# Altium schematic symbol library diy-modules.SCHLIB: 111 symbols (part 1 of 2)
Pins are listed as number, name and electrical type; pins without a type are passive.

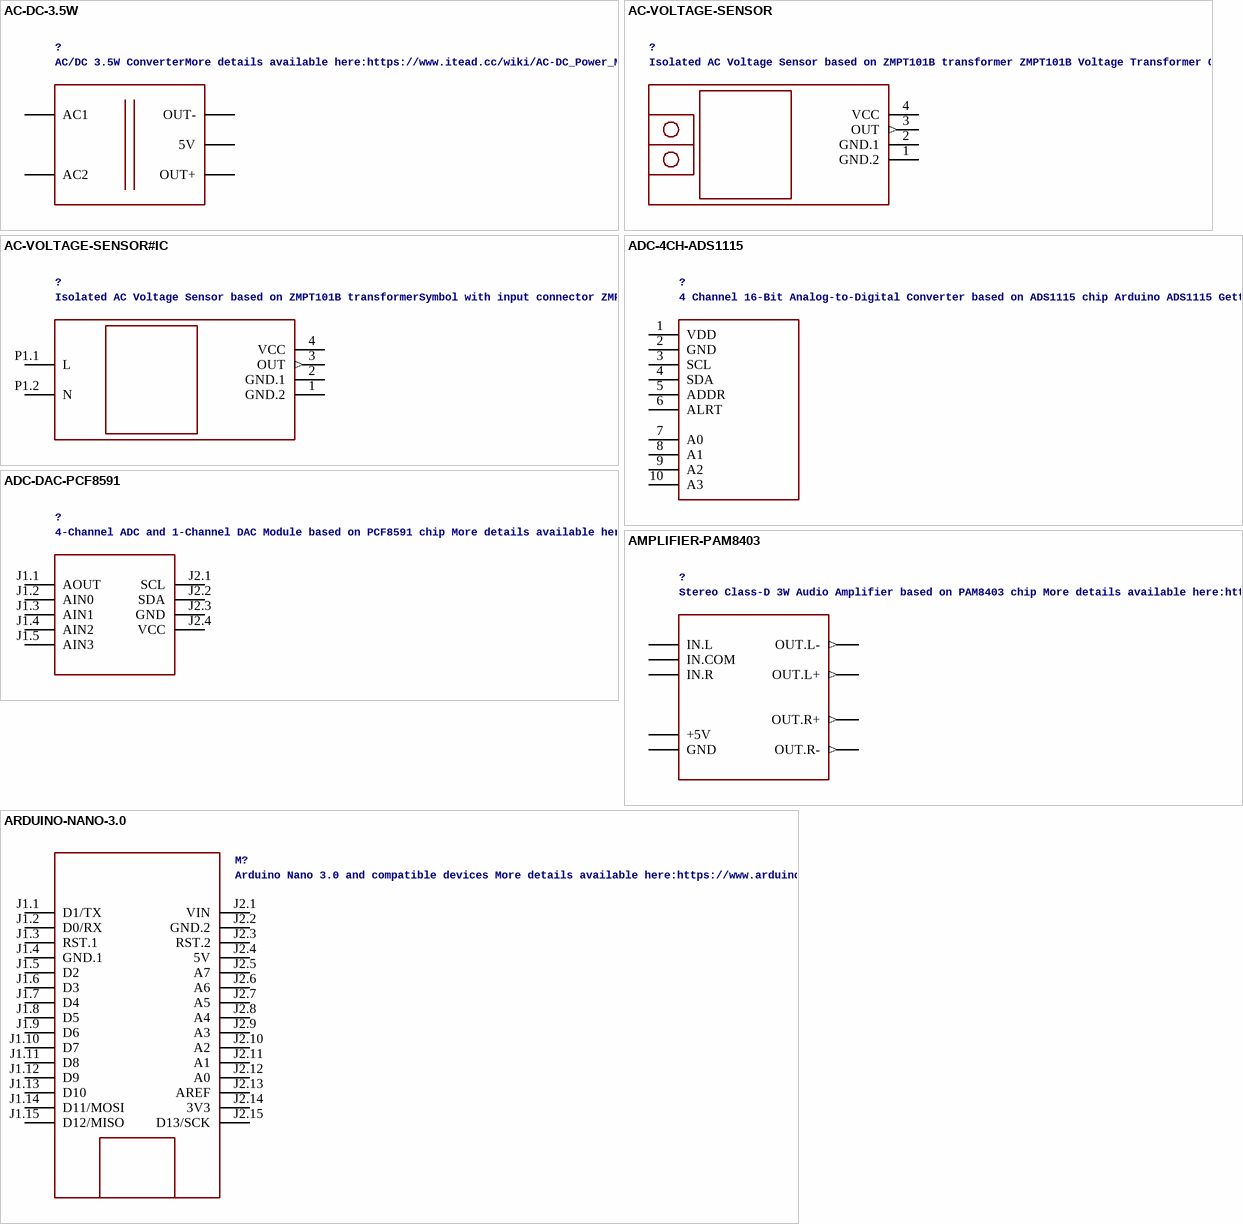
[diagram p0: symbols AC-DC-3.5W to ARDUINO-NANO-3.0]

## AC-DC-3.5W
designator ?, comment AC/DC 3.5W ConverterMore details available here:https://www.itead.cc/wiki/AC-DC_Power_Module_5V_700mAClick here to find device on ebay.com
GateName_1: G$1; SymbolName_1: AC-DC-3.5W; LibraryName: diy-modules; DeviceSetName: AC-DC-3.5W; Package: AC-DC-3.5W
footprint AC-DC-3.5W
pins: J1.1 AC1, J1.2 AC2, J2.1 OUT-, J2.2 5V, J2.3 OUT+

## AC-VOLTAGE-SENSOR
designator ?, comment Isolated AC Voltage Sensor based on ZMPT101B transformer ZMPT101B Voltage Transformer Operating Guide is available here:http://www.zeming-e.com/file/0_2013_10_18_093344.pdfClick here to find device on ebay.com
GateName_1: G$1; SymbolName_1: AC-VOLTAGE-SENSOR; LibraryName: diy-modules; DeviceSetName: AC-VOLTAGE-SENSOR; Package: AC-VOLTAGE-SENSOR
footprint AC-VOLTAGE-SENSOR
pins: 1 GND.2 (power), 2 GND.1 (power), 3 OUT (out), 4 VCC (power)

## AC-VOLTAGE-SENSOR#IC
designator ?, comment Isolated AC Voltage Sensor based on ZMPT101B transformerSymbol with input connector ZMPT101B Voltage Transformer Operating Guide is available here:http://www.zeming-e.com/file/0_2013_10_18_093344.pdfClick here to find device on ebay.com
GateName_1: G$1; SymbolName_1: AC-VOLTAGE-SENSOR#IC; LibraryName: diy-modules; DeviceSetName: AC-VOLTAGE-SENSOR#IC; Package: AC-VOLTAGE-SENSOR#IC
footprint AC-VOLTAGE-SENSOR#IC
pins: 1 GND.2 (power), 2 GND.1 (power), 3 OUT (out), 4 VCC (power), P1.1 L, P1.2 N

## ADC-4CH-ADS1115
designator ?, comment 4 Channel 16-Bit Analog-to-Digital Converter based on ADS1115 chip Arduino ADS1115 Getting Started Tutorial is available here:http://henrysbench.capnfatz.com/henrys-bench/arduino-voltage-measurements/arduino-ads1115-module-getting-started-tutorial/ADS1115 datasheet is available here:http://www.ti.com/lit/ds/symlink/ads1115.pdfClick here to find device on ebay.com
GateName_1: G$1; SymbolName_1: ADC-4CH-ADS1115; LibraryName: diy-modules; DeviceSetName: ADC-4CH-ADS1115; Package: ADC-4CH-ADS1115
footprint ADC-4CH-ADS1115
pins: 1 VDD (power), 2 GND (power), 3 SCL, 4 SDA, 5 ADDR, 6 ALRT, 7 A0, 8 A1, 9 A2, 10 A3

## ADC-DAC-PCF8591
designator ?, comment 4-Channel ADC and 1-Channel DAC Module based on PCF8591 chip More details available here:https://brainfyre.wordpress.com/2012/10/25/pcf8591-yl-40-ad-da-module-review/Click here to find device on ebay.com
GateName_1: G$1; SymbolName_1: ADC-DAC-PCF8591; LibraryName: diy-modules; DeviceSetName: ADC-DAC-PCF8591; Package: ADC-DAC-PCF8591
footprint ADC-DAC-PCF8591
pins: J1.1 AOUT, J1.2 AIN0, J1.3 AIN1, J1.4 AIN2, J1.5 AIN3, J2.1 SCL, J2.2 SDA, J2.3 GND (power), J2.4 VCC (power)

## AMPLIFIER-PAM8403
designator ?, comment Stereo Class-D 3W Audio Amplifier based on PAM8403 chip More details available here:http://artofcircuits.com/product/pam8403-5v-two-channel-stereo-mini-class-d-3w3w-audio-amplifierClick here to find device on ebay.com
GateName_1: G$1; SymbolName_1: AMPLIFIER-PAM8403; LibraryName: diy-modules; DeviceSetName: AMPLIFIER-PAM8403; Package: AMPLIFIER-PAM8403
footprint AMPLIFIER-PAM8403
pins: +5V (power), GND (power), IN.COM, IN.L, IN.R, OUT.L+ (out), OUT.L- (out), OUT.R+ (out), OUT.R- (out)

## ARDUINO-NANO-3.0
designator M?, comment Arduino Nano 3.0 and compatible devices More details available here:https://www.arduino.cc/en/Main/ArduinoBoardNanoClick here to find device on ebay.com
GateName_1: G$1; SymbolName_1: ARDUINO-NANO-3.0; LibraryName: diy-modules; DeviceSetName: ARDUINO-NANO-3.0; Package: ARDUINO-NANO-3.0
footprint ARDUINO-NANO-3.0
pins: J1.1 D1/TX, J1.2 D0/RX, J1.3 RST.1, J1.4 GND.1 (power), J1.5 D2, J1.6 D3, J1.7 D4, J1.8 D5, J1.9 D6, J1.10 D7, J1.11 D8, J1.12 D9, J1.13 D10, J1.14 D11/MOSI, J1.15 D12/MISO, J2.1 VIN (power), J2.2 GND.2 (power), J2.3 RST.2, J2.4 5V (power), J2.5 A7, J2.6 A6, J2.7 A5, J2.8 A4, J2.9 A3, J2.10 A2, J2.11 A1, J2.12 A0, J2.13 AREF, J2.14 3V3 (power), J2.15 D13/SCK

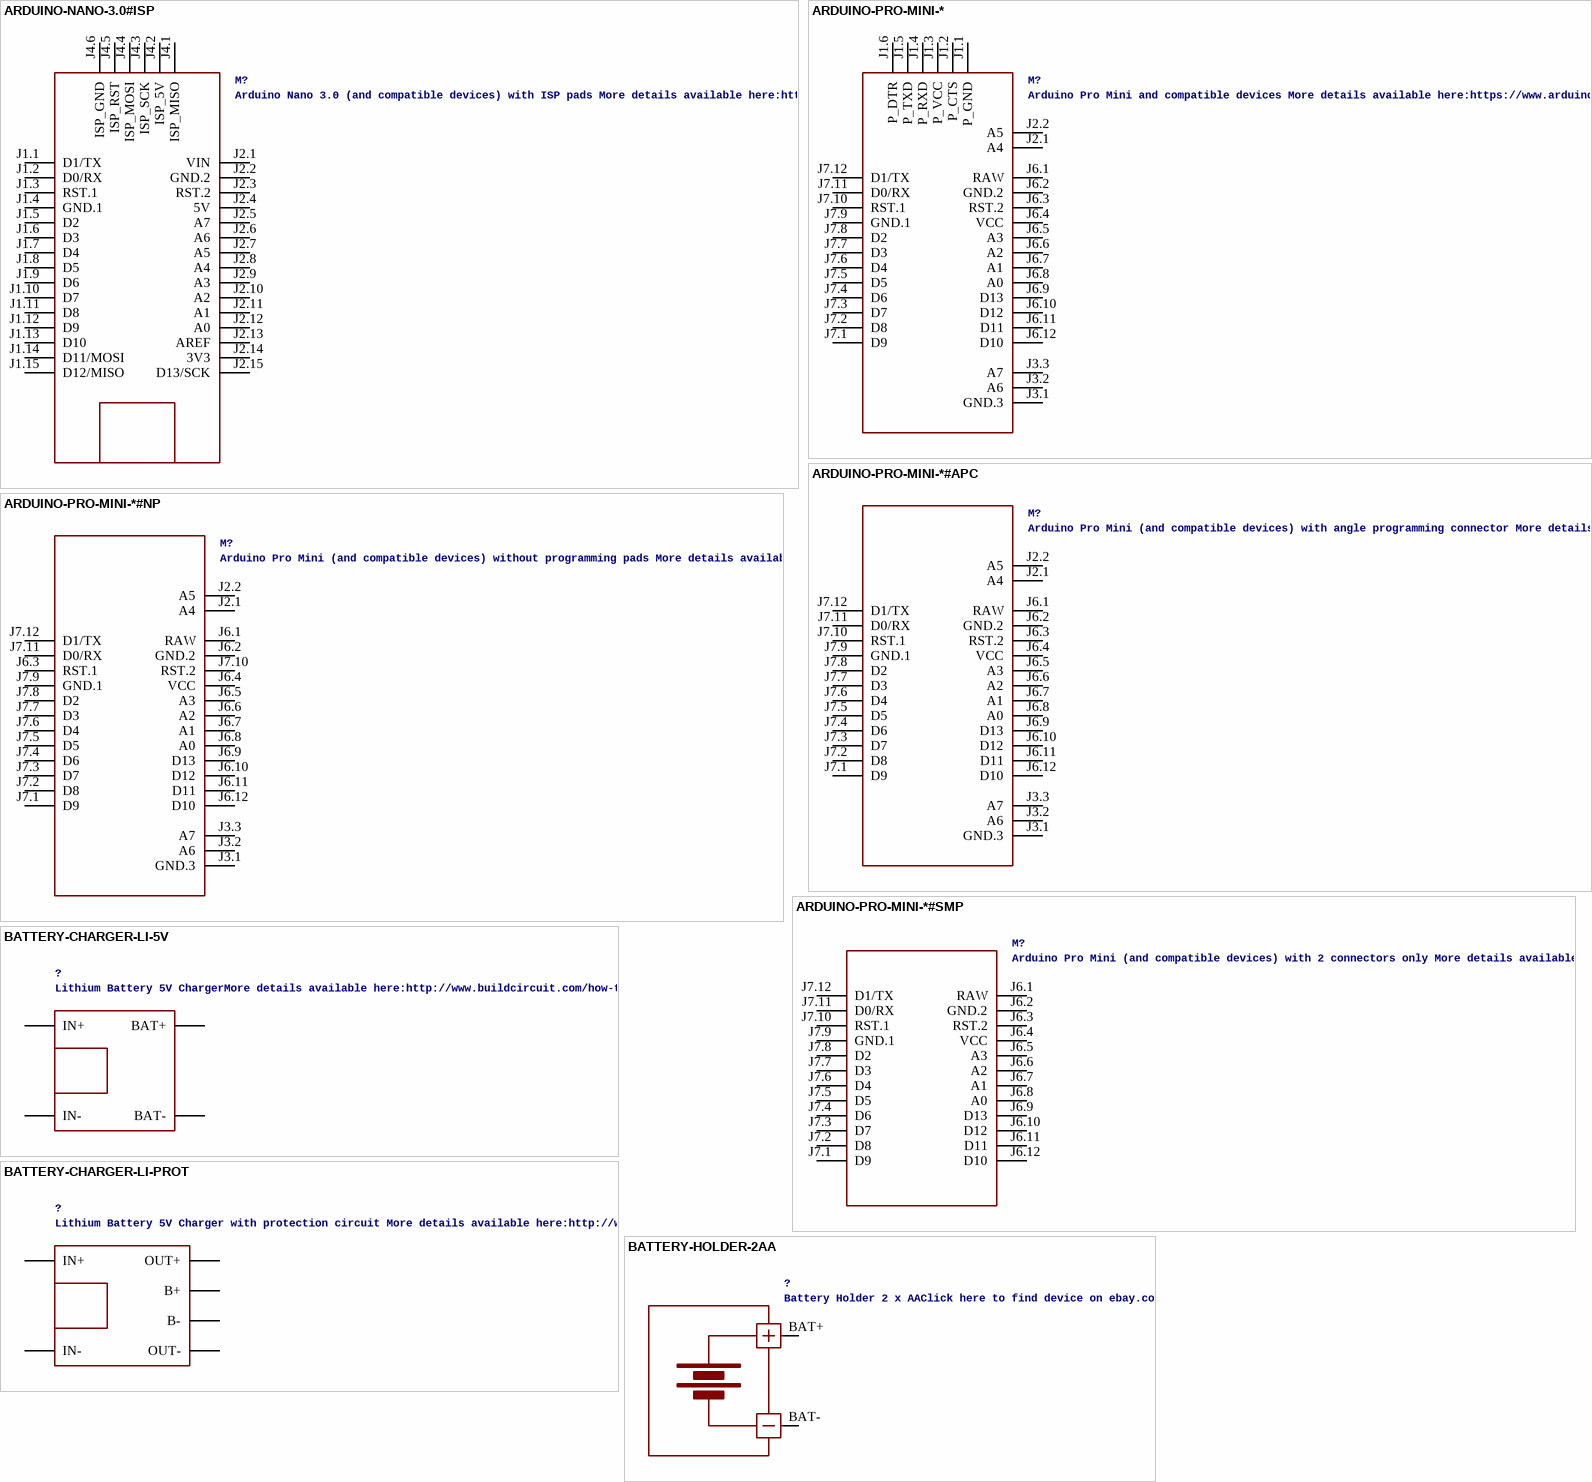
[diagram p1: symbols ARDUINO-NANO-3.0#ISP to BATTERY-HOLDER-2AA]

## ARDUINO-NANO-3.0#ISP
designator M?, comment Arduino Nano 3.0 (and compatible devices) with ISP pads More details available here:https://www.arduino.cc/en/Main/ArduinoBoardNanoClick here to find device on ebay.com
GateName_1: G$1; SymbolName_1: ARDUINO-NANO-3.0#ISP; LibraryName: diy-modules; DeviceSetName: ARDUINO-NANO-3.0#ISP; Package: ARDUINO-NANO-3.0#ISP
footprint ARDUINO-NANO-3.0#ISP
pins: J1.1 D1/TX, J1.2 D0/RX, J1.3 RST.1, J1.4 GND.1 (power), J1.5 D2, J1.6 D3, J1.7 D4, J1.8 D5, J1.9 D6, J1.10 D7, J1.11 D8, J1.12 D9, J1.13 D10, J1.14 D11/MOSI, J1.15 D12/MISO, J2.1 VIN (power), J2.2 GND.2 (power), J2.3 RST.2, J2.4 5V (power), J2.5 A7, J2.6 A6, J2.7 A5, J2.8 A4, J2.9 A3, J2.10 A2, J2.11 A1, J2.12 A0, J2.13 AREF, J2.14 3V3 (power), J2.15 D13/SCK, J4.1 ISP_MISO, J4.2 ISP_5V, J4.3 ISP_SCK, J4.4 ISP_MOSI, J4.5 ISP_RST, J4.6 ISP_GND

## ARDUINO-PRO-MINI-*
designator M?, comment Arduino Pro Mini and compatible devices More details available here:https://www.arduino.cc/en/Main/ArduinoBoardProMiniClick here to find device on ebay.com
GateName_1: G$1; SymbolName_1: ARDUINO-PRO-MINI; DeviceSetName: ARDUINO-PRO-MINI-*; LibraryName: diy-modules; Package: ARDUINO-PRO-MINI
footprint ARDUINO-PRO-MINI
pins: J1.1 P_GND, J1.2 P_CTS, J1.3 P_VCC, J1.4 P_RXD, J1.5 P_TXD, J1.6 P_DTR, J2.1 A4, J2.2 A5, J3.1 GND.3, J3.2 A6, J3.3 A7, J6.1 RAW (power), J6.2 GND.2 (power), J6.3 RST.2, J6.4 VCC (power), J6.5 A3, J6.6 A2, J6.7 A1, J6.8 A0, J6.9 D13, J6.10 D12, J6.11 D11, J6.12 D10, J7.1 D9, J7.2 D8, J7.3 D7, J7.4 D6, J7.5 D5, J7.6 D4, J7.7 D3, J7.8 D2, J7.9 GND.1 (power), J7.10 RST.1, J7.11 D0/RX, J7.12 D1/TX

## ARDUINO-PRO-MINI-*#APC
designator M?, comment Arduino Pro Mini (and compatible devices) with angle programming connector More details available here:https://www.arduino.cc/en/Main/ArduinoBoardProMiniClick here to find device on ebay.com
GateName_1: G$1; SymbolName_1: ARDUINO-PRO-MINI#NP; DeviceSetName: ARDUINO-PRO-MINI-*#APC; LibraryName: diy-modules; Package: ARDUINO-PRO-MINI#APC
footprint ARDUINO-PRO-MINI#APC
pins: J2.1 A4, J2.2 A5, J3.1 GND.3, J3.2 A6, J3.3 A7, J6.1 RAW (power), J6.2 GND.2 (power), J6.3 RST.2, J6.4 VCC (power), J6.5 A3, J6.6 A2, J6.7 A1, J6.8 A0, J6.9 D13, J6.10 D12, J6.11 D11, J6.12 D10, J7.1 D9, J7.2 D8, J7.3 D7, J7.4 D6, J7.5 D5, J7.6 D4, J7.7 D3, J7.8 D2, J7.9 GND.1 (power), J7.10 RST.1, J7.11 D0/RX, J7.12 D1/TX

## ARDUINO-PRO-MINI-*#NP
designator M?, comment Arduino Pro Mini (and compatible devices) without programming pads More details available here:https://www.arduino.cc/en/Main/ArduinoBoardProMiniClick here to find device on ebay.com
GateName_1: G$1; SymbolName_1: ARDUINO-PRO-MINI#NP; DeviceSetName: ARDUINO-PRO-MINI-*#NP; LibraryName: diy-modules; Package: ARDUINO-PRO-MINI#NP
footprint ARDUINO-PRO-MINI#NP
pins: J2.1 A4, J2.2 A5, J3.1 GND.3, J3.2 A6, J3.3 A7, J6.1 RAW (power), J6.2 GND.2 (power), J6.3 RST.1, J6.4 VCC (power), J6.5 A3, J6.6 A2, J6.7 A1, J6.8 A0, J6.9 D13, J6.10 D12, J6.11 D11, J6.12 D10, J7.1 D9, J7.2 D8, J7.3 D7, J7.4 D6, J7.5 D5, J7.6 D4, J7.7 D3, J7.8 D2, J7.9 GND.1 (power), J7.10 RST.2, J7.11 D0/RX, J7.12 D1/TX

## ARDUINO-PRO-MINI-*#SMP
designator M?, comment Arduino Pro Mini (and compatible devices) with 2 connectors only More details available here:https://www.arduino.cc/en/Main/ArduinoBoardProMiniClick here to find device on ebay.com
GateName_1: G$1; SymbolName_1: ARDUINO-PRO-MINI#SMP; DeviceSetName: ARDUINO-PRO-MINI-*#SMP; LibraryName: diy-modules; Package: ARDUINO-PRO-MINI#SMP
footprint ARDUINO-PRO-MINI#SMP
pins: J6.1 RAW (power), J6.2 GND.2 (power), J6.3 RST.2, J6.4 VCC (power), J6.5 A3, J6.6 A2, J6.7 A1, J6.8 A0, J6.9 D13, J6.10 D12, J6.11 D11, J6.12 D10, J7.1 D9, J7.2 D8, J7.3 D7, J7.4 D6, J7.5 D5, J7.6 D4, J7.7 D3, J7.8 D2, J7.9 GND.1 (power), J7.10 RST.1, J7.11 D0/RX, J7.12 D1/TX

## BATTERY-CHARGER-LI-5V
designator ?, comment Lithium Battery 5V ChargerMore details available here:http://www.buildcircuit.com/how-to-use-micro-usb-5v-1a-lithium-battery-charging-board-charger-module/Click here to find device on ebay.com
GateName_1: G$1; SymbolName_1: BATTERY-CHARGER-LI-5V; LibraryName: diy-modules; DeviceSetName: BATTERY-CHARGER-LI-5V; Package: BATTERY-CHARGER-LI-5V
footprint BATTERY-CHARGER-LI-5V
pins: BAT+, BAT-, IN+, IN-

## BATTERY-CHARGER-LI-PROT
designator ?, comment Lithium Battery 5V Charger with protection circuit More details available here:http://www.instructables.com/id/DIY-Lithium-ion-Battery-Charger/step4/TP4056-based-lithium-ion-battery-charger-module/Click here to find device on ebay.com
GateName_1: G$1; SymbolName_1: BATTERY-CHARGER-LI-PROT; LibraryName: diy-modules; DeviceSetName: BATTERY-CHARGER-LI-PROT; Package: BATTERY-CHARGER-LI-PROT
footprint BATTERY-CHARGER-LI-PROT
pins: B+, B-, IN+, IN-, OUT+, OUT-

## BATTERY-HOLDER-2AA
designator ?, comment Battery Holder 2 x AAClick here to find device on ebay.com
GateName_1: G$1; SymbolName_1: BATTERY-HOLDER-2AA; LibraryName: diy-modules; DeviceSetName: BATTERY-HOLDER-2AA; Package: BATTERY-HOLDER-2AA
footprint BATTERY-HOLDER-2AA
pins: BAT+ (power), BAT- (power)

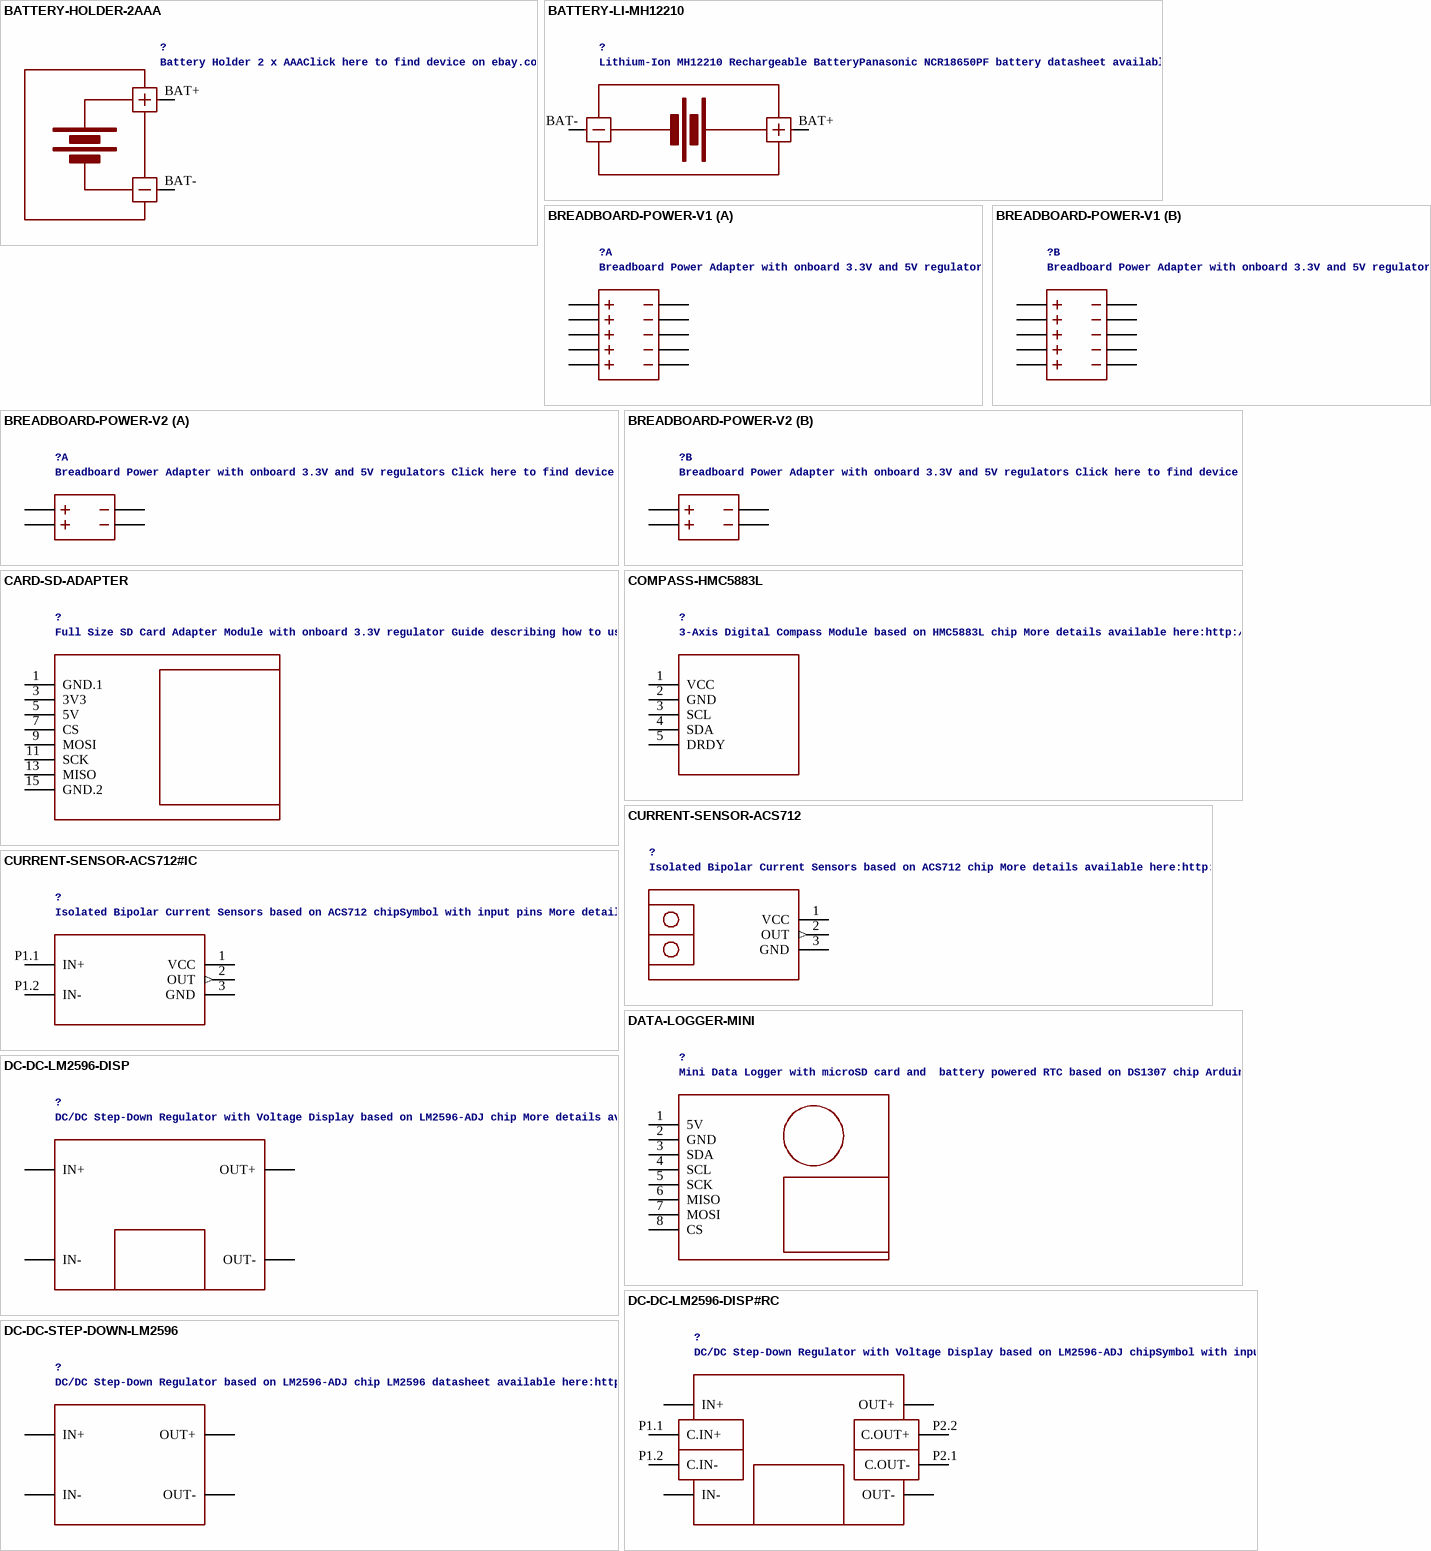
[diagram p2: symbols BATTERY-HOLDER-2AAA to DC-DC-STEP-DOWN-LM2596]

## BATTERY-HOLDER-2AAA
designator ?, comment Battery Holder 2 x AAAClick here to find device on ebay.com
GateName_1: G$1; SymbolName_1: BATTERY-HOLDER-2AAA; LibraryName: diy-modules; DeviceSetName: BATTERY-HOLDER-2AAA; Package: BATTERY-HOLDER-2AAA
footprint BATTERY-HOLDER-2AAA
pins: BAT+ (power), BAT- (power)

## BATTERY-LI-MH12210
designator ?, comment Lithium-Ion MH12210 Rechargeable BatteryPanasonic NCR18650PF battery datasheet available here:https://industrial.panasonic.com/cdbs/www-data/pdf2/ACI4000/ACI4000C12.pdfClick here to find device on ebay.com
GateName_1: G$1; SymbolName_1: BATTERY-LI-MH12210; LibraryName: diy-modules; DeviceSetName: BATTERY-LI-MH12210; Package: BATTERY-LI-MH12210
footprint BATTERY-LI-MH12210
pins: BAT+ (power), BAT- (power)

## BREADBOARD-POWER-V1
designator ?, comment Breadboard Power Adapter with onboard 3.3V and 5V regulators
GateName_1: G$1; SymbolName_1: BREADBOARD-POWER-V1; GateName_2: G$2; SymbolName_2: BREADBOARD-POWER-V1; LibraryName: diy-modules; DeviceSetName: BREADBOARD-POWER-V1; Package: BREADBOARD-POWER-V1
footprint BREADBOARD-POWER-V1
part A pins: A.M.1 M.1, A.M.2 M.2, A.M.3 M.3, A.M.4 M.4, A.M.5 M.5, A.P.1 P.1, A.P.2 P.2, A.P.3 P.3, A.P.4 P.4, A.P.5 P.5
part B pins: B.M.1 M.1, B.M.2 M.2, B.M.3 M.3, B.M.4 M.4, B.M.5 M.5, B.P.1 P.1, B.P.2 P.2, B.P.3 P.3, B.P.4 P.4, B.P.5 P.5

## BREADBOARD-POWER-V2
designator ?, comment Breadboard Power Adapter with onboard 3.3V and 5V regulators Click here to find device on ebay.com
GateName_1: G$1; SymbolName_1: BREADBOARD-POWER-V2; GateName_2: G$2; SymbolName_2: BREADBOARD-POWER-V2; LibraryName: diy-modules; DeviceSetName: BREADBOARD-POWER-V2; Package: BREADBOARD-POWER-V2
footprint BREADBOARD-POWER-V2
part A pins: A.M.1 M.1, A.M.2 M.2, A.P.1 P.1, A.P.2 P.2
part B pins: B.M.1 M.1, B.M.2 M.2, B.P.1 P.1, B.P.2 P.2

## CARD-SD-ADAPTER
designator ?, comment Full Size SD Card Adapter Module with onboard 3.3V regulator Guide describing how to use SD card with Arduino is available here:https://www.arduino.cc/en/Reference/SDCardNotesClick here to find device on ebay.com
GateName_1: G$1; SymbolName_1: CARD-SD-ADAPTER; LibraryName: diy-modules; DeviceSetName: CARD-SD-ADAPTER; Package: CARD-SD-ADAPTER
footprint CARD-SD-ADAPTER
pins: 1 GND.1 (power), 3 3V3 (power), 5 5V (power), 7 CS, 9 MOSI, 11 SCK, 13 MISO, 15 GND.2 (power)

## COMPASS-HMC5883L
designator ?, comment 3-Axis Digital Compass Module based on HMC5883L chip More details available here:http://www.electrodragon.com/w/HMCClick here to find device on ebay.com
GateName_1: G$1; SymbolName_1: COMPASS-HMC5883L; LibraryName: diy-modules; DeviceSetName: COMPASS-HMC5883L; Package: COMPASS-HMC5883L
footprint COMPASS-HMC5883L
pins: 1 VCC (power), 2 GND (power), 3 SCL, 4 SDA, 5 DRDY

## CURRENT-SENSOR-ACS712
designator ?, comment Isolated Bipolar Current Sensors based on ACS712 chip More details available here:http://embedded-lab.com/blog/a-brief-overview-of-allegro-acs712-current-sensor-part-1/Click here to find device on ebay.comNote: There are many available versions with different pinout. Please check before use
GateName_1: G$1; SymbolName_1: CURRENT-SENSOR-ACS712; LibraryName: diy-modules; DeviceSetName: CURRENT-SENSOR-ACS712; Package: CURRENT-SENSOR-ACS712
footprint CURRENT-SENSOR-ACS712
pins: 1 VCC (power), 2 OUT (out), 3 GND (power)

## CURRENT-SENSOR-ACS712#IC
designator ?, comment Isolated Bipolar Current Sensors based on ACS712 chipSymbol with input pins More details available here:http://embedded-lab.com/blog/a-brief-overview-of-allegro-acs712-current-sensor-part-1/Click here to find device on ebay.comNote: There are many available versions with different pinout. Please check before use
GateName_1: G$1; SymbolName_1: CURRENT-SENSOR-ACS712#IC; LibraryName: diy-modules; DeviceSetName: CURRENT-SENSOR-ACS712#IC; Package: CURRENT-SENSOR-ACS712#IC
footprint CURRENT-SENSOR-ACS712#IC
pins: 1 VCC (power), 2 OUT (out), 3 GND (power), P1.1 IN+, P1.2 IN-

## DATA-LOGGER-MINI
designator ?, comment Mini Data Logger with microSD card and  battery powered RTC based on DS1307 chip Arduino library for DS1307 and description are available here:https://www.pjrc.com/teensy/td_libs_DS1307RTC.htmlTutorial how to use SD card with Arduino:https://www.arduino.cc/en/reference/SDClick here to find device on ebay.com
GateName_1: G$1; SymbolName_1: DATA-LOGGER-MINI; LibraryName: diy-modules; DeviceSetName: DATA-LOGGER-MINI; Package: DATA-LOGGER-MINI
footprint DATA-LOGGER-MINI
pins: 1 5V (power), 2 GND (power), 3 SDA, 4 SCL, 5 SCK, 6 MISO, 7 MOSI, 8 CS (power)

## DC-DC-LM2596-DISP
designator ?, comment DC/DC Step-Down Regulator with Voltage Display based on LM2596-ADJ chip More details available here:http://www.instructables.com/id/The-Introduction-of-LM2596-Step-Down-Power-Module-/LM2596 datasheet available here:http://www.ti.com/lit/ds/symlink/lm2596.pdfClick here to find device on ebay.com
GateName_1: G$1; SymbolName_1: DC-DC-LM2596-DISP; LibraryName: diy-modules; DeviceSetName: DC-DC-LM2596-DISP; Package: DC-DC-LM2596-DISP
footprint DC-DC-LM2596-DISP
pins: IN+, IN-, OUT+, OUT-

## DC-DC-LM2596-DISP#RC
designator ?, comment DC/DC Step-Down Regulator with Voltage Display based on LM2596-ADJ chipSymbol with input and output connectors More details available here:http://www.instructables.com/id/The-Introduction-of-LM2596-Step-Down-Power-Module-/LM2596 datasheet available here:http://www.ti.com/lit/ds/symlink/lm2596.pdfClick here to find device on ebay.com
GateName_1: G$1; SymbolName_1: DC-DC-LM2596-DISP#RC; LibraryName: diy-modules; DeviceSetName: DC-DC-LM2596-DISP#RC; Package: DC-DC-LM2596-DISP#RC
footprint DC-DC-LM2596-DISP#RC
pins: IN+, IN-, OUT+, OUT-, P1.1 C.IN+, P1.2 C.IN-, P2.1 C.OUT-, P2.2 C.OUT+

## DC-DC-STEP-DOWN-LM2596
designator ?, comment DC/DC Step-Down Regulator based on LM2596-ADJ chip LM2596 datasheet available here:http://www.ti.com/lit/ds/symlink/lm2596.pdfClick here to find device on ebay.com
GateName_1: G$1; SymbolName_1: DC-DC-STEP-DOWN-LM2596; LibraryName: diy-modules; DeviceSetName: DC-DC-STEP-DOWN-LM2596; Package: DC-DC-STEP-DOWN-LM2596
footprint DC-DC-STEP-DOWN-LM2596
pins: IN+, IN-, OUT+, OUT-

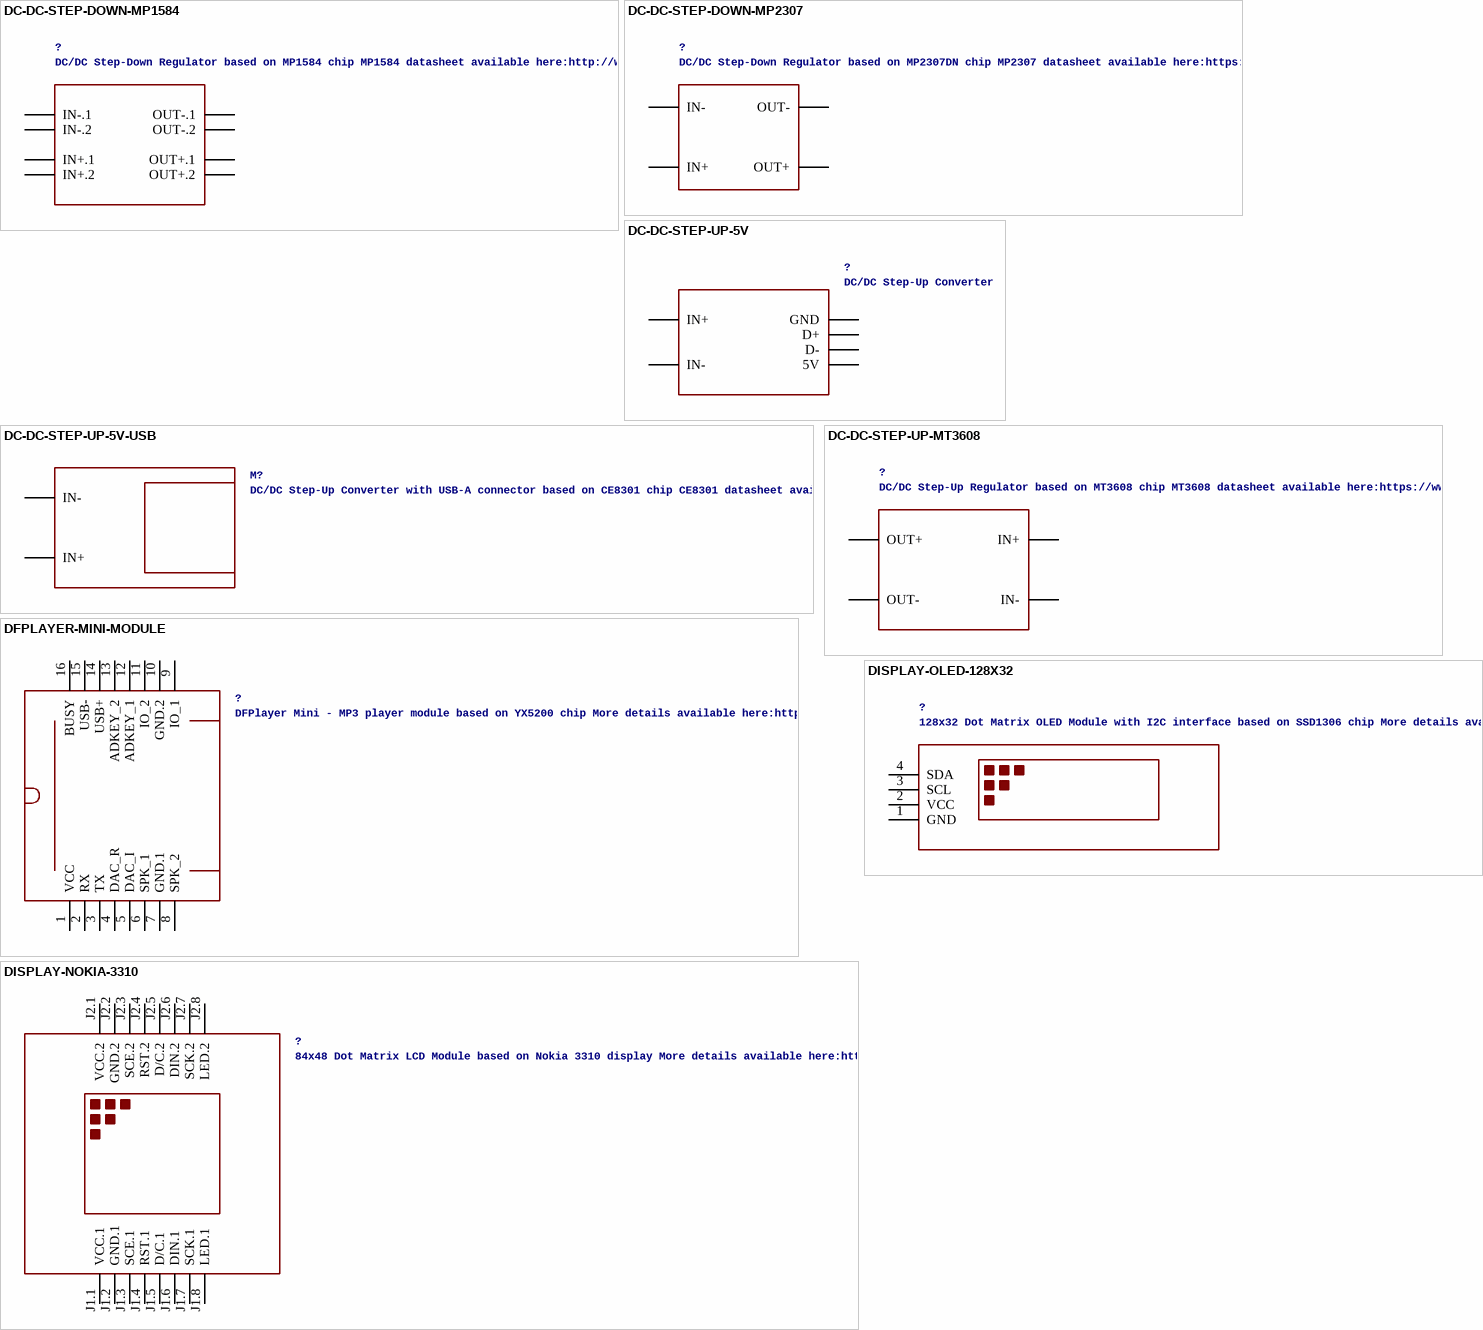
[diagram p3: symbols DC-DC-STEP-DOWN-MP1584 to DISPLAY-OLED-128X32]

## DC-DC-STEP-DOWN-MP1584
designator ?, comment DC/DC Step-Down Regulator based on MP1584 chip MP1584 datasheet available here:http://www.haoyuelectronics.com/Attachment/MP1584/MP1584.pdfClick here to find device on ebay.com
GateName_1: G$1; SymbolName_1: DC-DC-STEP-DOWN-MP1584; LibraryName: diy-modules; DeviceSetName: DC-DC-STEP-DOWN-MP1584; Package: DC-DC-STEP-DOWN-MP1584
footprint DC-DC-STEP-DOWN-MP1584
pins: IN+.1, IN+.2, IN-.1, IN-.2, OUT+.1, OUT+.2, OUT-.1, OUT-.2

## DC-DC-STEP-DOWN-MP2307
designator ?, comment DC/DC Step-Down Regulator based on MP2307DN chip MP2307 datasheet available here:https://cdn-shop.adafruit.com/datasheets/MP2307_r1.9.pdfClick here to find device on ebay.com
GateName_1: G$1; SymbolName_1: DC-DC-STEP-DOWN-MP2307; LibraryName: diy-modules; DeviceSetName: DC-DC-STEP-DOWN-MP2307; Package: DC-DC-STEP-DOWN-MP2307
footprint DC-DC-STEP-DOWN-MP2307
pins: IN+, IN-, OUT+, OUT-

## DC-DC-STEP-UP-5V
designator ?, comment DC/DC Step-Up Converter
GateName_1: G$1; SymbolName_1: DC-DC-STEP-UP-5V; LibraryName: diy-modules; DeviceSetName: DC-DC-STEP-UP-5V; Package: DC-DC-STEP-UP-5V
footprint DC-DC-STEP-UP-5V
pins: 5V, D+, D-, GND, IN+ (power), IN- (power)

## DC-DC-STEP-UP-5V-USB
designator M?, comment DC/DC Step-Up Converter with USB-A connector based on CE8301 chip CE8301 datasheet available here:https://www.mpja.com/download/ce830.pdfClick here to find device on ebay.com
GateName_1: G$1; SymbolName_1: DC-DC-STEP-UP-5V-USB; LibraryName: diy-modules; DeviceSetName: DC-DC-STEP-UP-5V-USB; Package: DC-DC-STEP-UP-5V-USB
footprint DC-DC-STEP-UP-5V-USB
pins: IN+ (power), IN- (power)

## DC-DC-STEP-UP-MT3608
designator ?, comment DC/DC Step-Up Regulator based on MT3608 chip MT3608 datasheet available here:https://www.olimex.com/Products/Breadboarding/BB-PWR-3608/resources/MT3608.pdfClick here to find device on ebay.com
GateName_1: G$1; SymbolName_1: DC-DC-STEP-UP-MT3608; LibraryName: diy-modules; DeviceSetName: DC-DC-STEP-UP-MT3608; Package: DC-DC-STEP-UP-MT3608
footprint DC-DC-STEP-UP-MT3608
pins: IN+, IN-, OUT+, OUT-

## DFPLAYER-MINI-MODULE
designator ?, comment DFPlayer Mini - MP3 player module based on YX5200 chip More details available here:https://www.dfrobot.com/wiki/index.php/DFPlayer_Mini_SKU:DFR0299Click here to find device on ebay.com
GateName_1: G$1; SymbolName_1: DFPLAYER-MINI-MODULE; LibraryName: diy-modules; DeviceSetName: DFPLAYER-MINI-MODULE; Package: DFPLAYER-MINI-MODULE
footprint DFPLAYER-MINI-MODULE
pins: 1 VCC (power), 2 RX, 3 TX, 4 DAC_R, 5 DAC_I, 6 SPK_1, 7 GND.1 (power), 8 SPK_2, 9 IO_1, 10 GND.2 (power), 11 IO_2, 12 ADKEY_1, 13 ADKEY_2, 14 USB+, 15 USB-, 16 BUSY

## DISPLAY-NOKIA-3310
designator ?, comment 84x48 Dot Matrix LCD Module based on Nokia 3310 display More details available here:https://arduinoandsoftware.wordpress.com/2012/12/30/nokia-33105110-3-3v-display-with-5v-arduino/
GateName_1: G$1; SymbolName_1: DISPLAY-NOKIA-3310; LibraryName: diy-modules; DeviceSetName: DISPLAY-NOKIA-3310; Package: DISPLAY-NOKIA-3310
footprint DISPLAY-NOKIA-3310
pins: J1.1 VCC.1 (power), J1.2 GND.1 (power), J1.3 SCE.1, J1.4 RST.1, J1.5 D/C.1, J1.6 DIN.1, J1.7 SCK.1, J1.8 LED.1, J2.1 VCC.2 (power), J2.2 GND.2 (power), J2.3 SCE.2, J2.4 RST.2, J2.5 D/C.2, J2.6 DIN.2, J2.7 SCK.2, J2.8 LED.2

## DISPLAY-OLED-128X32
designator ?, comment 128x32 Dot Matrix OLED Module with I2C interface based on SSD1306 chip More details available here:http://www.tinyosshop.com/index.php?route=product/product&product_id=953Schematic available here:http://www.tinyosshop.com/datasheet/OLED%2012832.pdfSSD1306 datasheet:https://cdn-shop.adafruit.com/datasheets/SSD1306.pdfClick here to find device on ebay.com
GateName_1: G$1; SymbolName_1: DISPLAY-OLED-128X32; LibraryName: diy-modules; DeviceSetName: DISPLAY-OLED-128X32; Package: DISPLAY-OLED-128X32
footprint DISPLAY-OLED-128X32
pins: 1 GND (power), 2 VCC (power), 3 SCL, 4 SDA

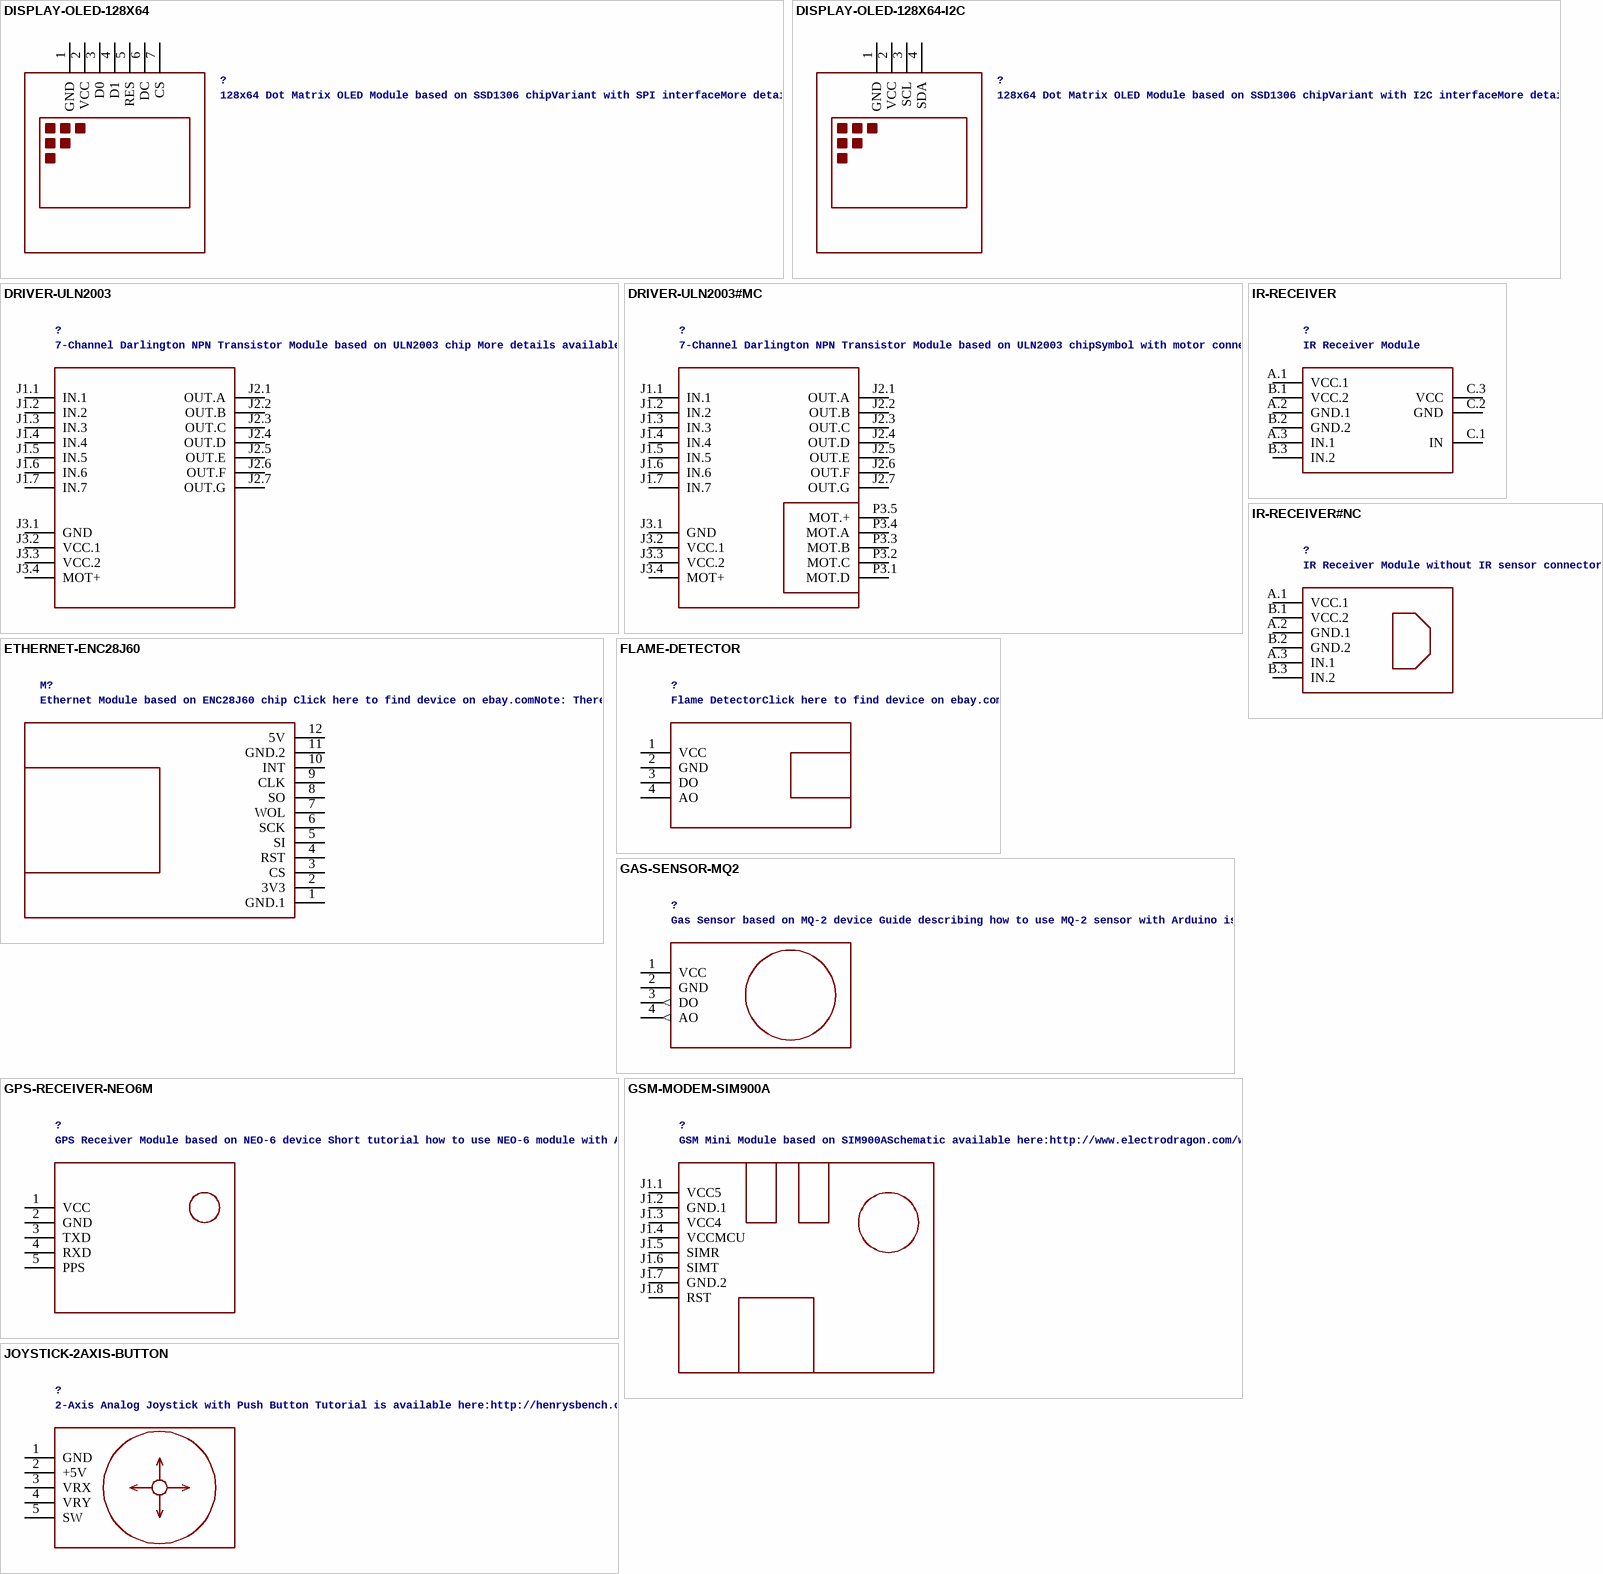
[diagram p4: symbols DISPLAY-OLED-128X64 to JOYSTICK-2AXIS-BUTTON]

## DISPLAY-OLED-128X64
designator ?, comment 128x64 Dot Matrix OLED Module based on SSD1306 chipVariant with SPI interfaceMore details available here:http://www.instructables.com/id/How-to-use-OLED-display-arduino-module/SSD1306 datasheet:https://cdn-shop.adafruit.com/datasheets/SSD1306.pdfClick here to find device on ebay.comNote: There are two variants: I2C and SPI. Search for the proper version.
GateName_1: G$1; SymbolName_1: DISPLAY-OLED-128X64; LibraryName: diy-modules; DeviceSetName: DISPLAY-OLED-128X64; Package: DISPLAY-OLED-128X64
footprint DISPLAY-OLED-128X64
pins: 1 GND (power), 2 VCC (power), 3 D0, 4 D1, 5 RES, 6 DC, 7 CS

## DISPLAY-OLED-128X64-I2C
designator ?, comment 128x64 Dot Matrix OLED Module based on SSD1306 chipVariant with I2C interfaceMore details available here:http://www.instructables.com/id/Monochrome-096-i2c-OLED-display-with-arduino-SSD13/SSD1306 datasheet:https://cdn-shop.adafruit.com/datasheets/SSD1306.pdfClick here to find device on ebay.comNote: There are two variants: I2C and SPI. Search for the proper version.
GateName_1: G$1; SymbolName_1: DISPLAY-OLED-128X64-I2C; LibraryName: diy-modules; DeviceSetName: DISPLAY-OLED-128X64-I2C; Package: DISPLAY-OLED-128X64-I2C
footprint DISPLAY-OLED-128X64-I2C
pins: 1 GND (power), 2 VCC (power), 3 SCL, 4 SDA

## DRIVER-ULN2003
designator ?, comment 7-Channel Darlington NPN Transistor Module based on ULN2003 chip More details available here:https://www.elecrow.com/wiki/index.php?title=ULN2003_Stepper_Motor_DriverULN2003 datasheet available here:http://www.ti.com/lit/ds/slrs027o/slrs027o.pdfClick here to find device on ebay.comNote: There are many variants. Search for the proper version.
GateName_1: G$1; SymbolName_1: DRIVER-ULN2003; LibraryName: diy-modules; DeviceSetName: DRIVER-ULN2003; Package: DRIVER-ULN2003
footprint DRIVER-ULN2003
pins: J1.1 IN.1, J1.2 IN.2, J1.3 IN.3, J1.4 IN.4, J1.5 IN.5, J1.6 IN.6, J1.7 IN.7, J2.1 OUT.A, J2.2 OUT.B, J2.3 OUT.C, J2.4 OUT.D, J2.5 OUT.E, J2.6 OUT.F, J2.7 OUT.G, J3.1 GND (power), J3.2 VCC.1 (power), J3.3 VCC.2, J3.4 MOT+

## DRIVER-ULN2003#MC
designator ?, comment 7-Channel Darlington NPN Transistor Module based on ULN2003 chipSymbol with motor connector pins More details available here:https://www.elecrow.com/wiki/index.php?title=ULN2003_Stepper_Motor_DriverULN2003 datasheet available here:http://www.ti.com/lit/ds/slrs027o/slrs027o.pdfClick here to find device on ebay.comNote: There are many variants. Search for the proper version.
GateName_1: G$1; SymbolName_1: DRIVER-ULN2003#MC; LibraryName: diy-modules; DeviceSetName: DRIVER-ULN2003#MC; Package: DRIVER-ULN2003#MC
footprint DRIVER-ULN2003#MC
pins: J1.1 IN.1, J1.2 IN.2, J1.3 IN.3, J1.4 IN.4, J1.5 IN.5, J1.6 IN.6, J1.7 IN.7, J2.1 OUT.A, J2.2 OUT.B, J2.3 OUT.C, J2.4 OUT.D, J2.5 OUT.E, J2.6 OUT.F, J2.7 OUT.G, J3.1 GND (power), J3.2 VCC.1 (power), J3.3 VCC.2, J3.4 MOT+, P3.1 MOT.D, P3.2 MOT.C, P3.3 MOT.B, P3.4 MOT.A, P3.5 MOT.+

## ETHERNET-ENC28J60
designator M?, comment Ethernet Module based on ENC28J60 chip Click here to find device on ebay.comNote: There are many variants. Search for the proper version.
GateName_1: G$1; SymbolName_1: ETHERNET-ENC28J60; LibraryName: diy-modules; DeviceSetName: ETHERNET-ENC28J60; Package: ETHERNET-ENC28J60
footprint ETHERNET-ENC28J60
pins: 1 GND.1 (power), 2 3V3 (power), 3 CS, 4 RST, 5 SI, 6 SCK, 7 WOL, 8 SO, 9 CLK, 10 INT, 11 GND.2 (power), 12 5V (power)

## FLAME-DETECTOR
designator ?, comment Flame DetectorClick here to find device on ebay.com
GateName_1: G$1; SymbolName_1: FLAME-DETECTOR; LibraryName: diy-modules; DeviceSetName: FLAME-DETECTOR; Package: FLAME-DETECTOR
footprint FLAME-DETECTOR
pins: 1 VCC (power), 2 GND (power), 3 DO, 4 AO

## GAS-SENSOR-MQ2
designator ?, comment Gas Sensor based on MQ-2 device Guide describing how to use MQ-2 sensor with Arduino is available here:http://www.instructables.com/id/How-to-use-MQ2-Gas-Sensor-Arduino-Tutorial/MQ-2 sensor datasheet is available here:http://gas-sensor.ru/pdf/combustible-gas-sensor.pdfClick here to find device on ebay.com
GateName_1: G$1; SymbolName_1: GAS-SENSOR-MQ2; LibraryName: diy-modules; DeviceSetName: GAS-SENSOR-MQ2; Package: GAS-SENSOR-MQ2
footprint GAS-SENSOR-MQ2
pins: 1 VCC (power), 2 GND (power), 3 DO (out), 4 AO (out)

## GPS-RECEIVER-NEO6M
designator ?, comment GPS Receiver Module based on NEO-6 device Short tutorial how to use NEO-6 module with Arduino:http://www.xarg.org/2016/06/neo6mv2-gps-module-with-arduino/NEO-6 datasheet is available here:https://www.u-blox.com/sites/default/files/products/documents/NEO-6_DataSheet_%28GPS.G6-HW-09005%29.pdfClick here to find device on ebay.com
GateName_1: G$1; SymbolName_1: GPS-RECEIVER-NEO6M; LibraryName: diy-modules; DeviceSetName: GPS-RECEIVER-NEO6M; Package: GPS-RECEIVER-NEO6M
footprint GPS-RECEIVER-NEO6M
pins: 1 VCC, 2 GND, 3 TXD, 4 RXD (power), 5 PPS (power)

## GSM-MODEM-SIM900A
designator ?, comment GSM Mini Module based on SIM900ASchematic available here:http://www.electrodragon.com/w/SIM900_(SIM900A)_Mini_DEV_Board
GateName_1: G$1; SymbolName_1: GSM-MODEM-SIM900A; LibraryName: diy-modules; DeviceSetName: GSM-MODEM-SIM900A; Package: GSM-MODEM-SIM900A
footprint GSM-MODEM-SIM900A
pins: J1.1 VCC5 (power), J1.2 GND.1 (power), J1.3 VCC4 (power), J1.4 VCCMCU (power), J1.5 SIMR, J1.6 SIMT, J1.7 GND.2 (power), J1.8 RST

## IR-RECEIVER
designator ?, comment IR Receiver Module
GateName_1: G$1; SymbolName_1: IR-RECEIVER; LibraryName: diy-modules; DeviceSetName: IR-RECEIVER; Package: IR-RECEIVER
footprint IR-RECEIVER
pins: A.1 VCC.1, A.2 GND.1, A.3 IN.1, B.1 VCC.2, B.2 GND.2, B.3 IN.2, C.1 IN, C.2 GND, C.3 VCC

## IR-RECEIVER#NC
designator ?, comment IR Receiver Module without IR sensor connector
GateName_1: G$1; SymbolName_1: IR-RECEIVER#NC; LibraryName: diy-modules; DeviceSetName: IR-RECEIVER#NC; Package: IR-RECEIVER#NC
footprint IR-RECEIVER#NC
pins: A.1 VCC.1, A.2 GND.1, A.3 IN.1, B.1 VCC.2, B.2 GND.2, B.3 IN.2

## JOYSTICK-2AXIS-BUTTON
designator ?, comment 2-Axis Analog Joystick with Push Button Tutorial is available here:http://henrysbench.capnfatz.com/henrys-bench/arduino-sensors-and-input/arduino-ps2-joystick-tutorial-keyes-ky-023-deek-robot/Click here to find device on ebay.com
GateName_1: G$1; SymbolName_1: JOYSTICK-2AXIS-BUTTON; LibraryName: diy-modules; DeviceSetName: JOYSTICK-2AXIS-BUTTON; Package: JOYSTICK-2AXIS-BUTTON
footprint JOYSTICK-2AXIS-BUTTON
pins: 1 GND (power), 2 +5V (power), 3 VRX, 4 VRY, 5 SW

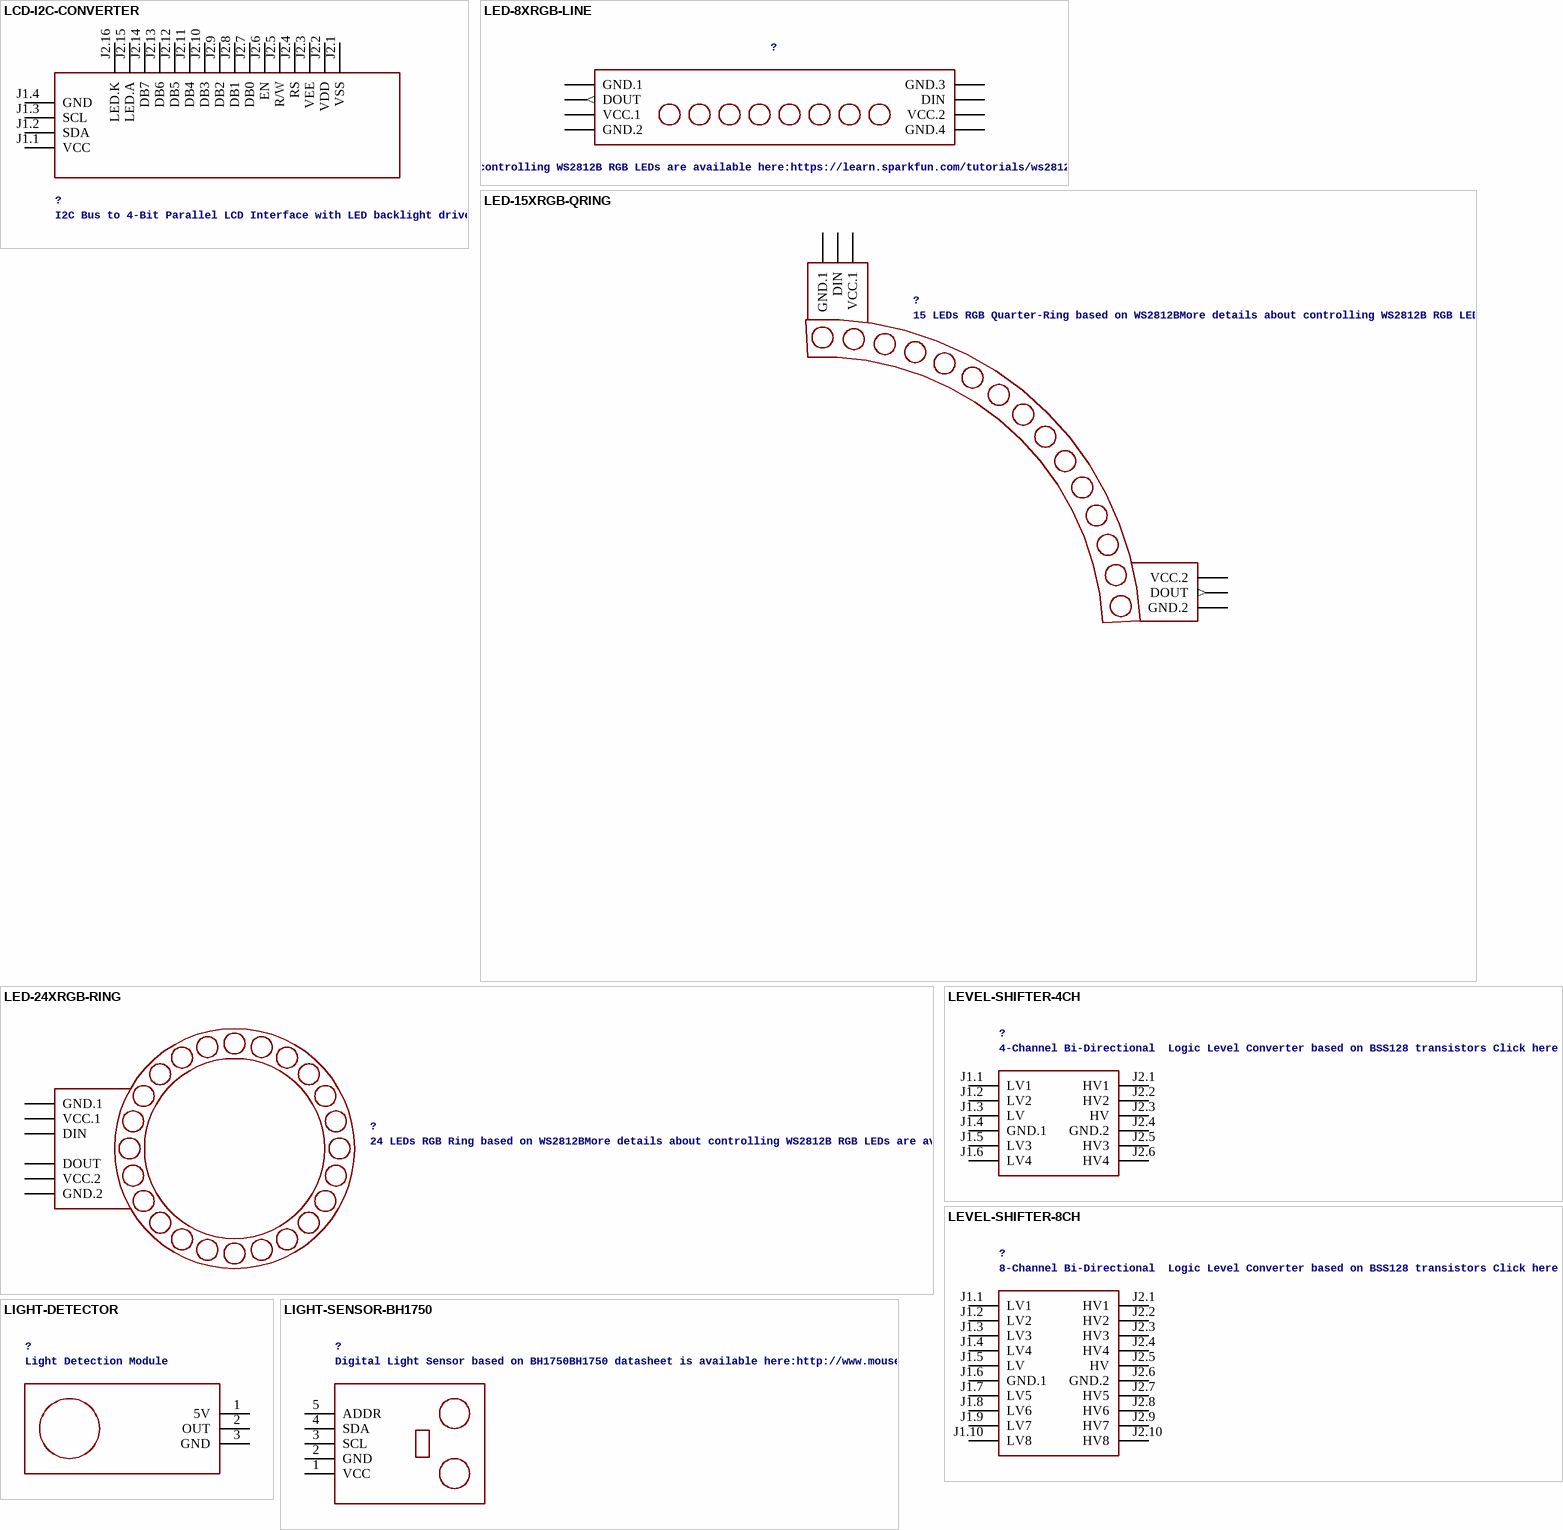
[diagram p5: symbols LCD-I2C-CONVERTER to LIGHT-SENSOR-BH1750]

## LCD-I2C-CONVERTER
designator ?, comment I2C Bus to 4-Bit Parallel LCD Interface with LED backlight driver
GateName_1: G$1; SymbolName_1: LCD-I2C-CONVERTER; LibraryName: diy-modules; DeviceSetName: LCD-I2C-CONVERTER; Package: LCD-I2C-CONVERTER
footprint LCD-I2C-CONVERTER
pins: J1.1 VCC (power), J1.2 SDA, J1.3 SCL, J1.4 GND (power), J2.1 VSS, J2.2 VDD, J2.3 VEE, J2.4 RS, J2.5 R/W, J2.6 EN, J2.7 DB0, J2.8 DB1, J2.9 DB2, J2.10 DB3, J2.11 DB4, J2.12 DB5, J2.13 DB6, J2.14 DB7, J2.15 LED.A, J2.16 LED.K

## LED-8XRGB-LINE
designator ?, comment 8 LEDs RGB Line Display based on WS2812BMore details about controlling WS2812B RGB LEDs are available here:https://learn.sparkfun.com/tutorials/ws2812-breakout-hookup-guideClick here to find device on ebay.com
GateName_1: G$1; SymbolName_1: LED-8XRGB-LINE; LibraryName: diy-modules; DeviceSetName: LED-8XRGB-LINE; Package: LED-8XRGB-LINE
footprint LED-8XRGB-LINE
pins: A.1 GND.1 (power), A.2 DOUT (out), A.3 VCC.1 (power), A.4 GND.2 (power), B.1 GND.3 (power), B.2 DIN, B.3 VCC.2 (power), B.4 GND.4 (power)

## LED-15XRGB-QRING
designator ?, comment 15 LEDs RGB Quarter-Ring based on WS2812BMore details about controlling WS2812B RGB LEDs are available here:https://learn.sparkfun.com/tutorials/ws2812-breakout-hookup-guideClick here to find device on ebay.comNote: Sold in packs of 4 pieces.
GateName_1: G$1; SymbolName_1: LED-15XRGB-QRING; LibraryName: diy-modules; DeviceSetName: LED-15XRGB-QRING; Package: LED-15XRGB-QRING
footprint LED-15XRGB-QRING
pins: 1 GND.1 (power), 2 DIN, 3 VCC.1 (power), 4 GND.2 (power), 5 DOUT (out), 6 VCC.2 (power)

## LED-24XRGB-RING
designator ?, comment 24 LEDs RGB Ring based on WS2812BMore details about controlling WS2812B RGB LEDs are available here:https://learn.sparkfun.com/tutorials/ws2812-breakout-hookup-guideClick here to find device on ebay.com
GateName_1: G$1; SymbolName_1: LED-24XRGB-RING; LibraryName: diy-modules; DeviceSetName: LED-24XRGB-RING; Package: LED-24XRGB-RING
footprint LED-24XRGB-RING
pins: 1 GND.1 (power), 2 VCC.1 (power), 3 DIN, 4 DOUT, 5 VCC.2 (power), 6 GND.2 (power)

## LEVEL-SHIFTER-4CH
designator ?, comment 4-Channel Bi-Directional  Logic Level Converter based on BSS128 transistors Click here to find device on ebay.com
GateName_1: G$1; SymbolName_1: LEVEL-SHIFTER-4CH; LibraryName: diy-modules; DeviceSetName: LEVEL-SHIFTER-4CH; Package: LEVEL-SHIFTER-4CH
footprint LEVEL-SHIFTER-4CH
pins: J1.1 LV1, J1.2 LV2, J1.3 LV (power), J1.4 GND.1 (power), J1.5 LV3, J1.6 LV4, J2.1 HV1, J2.2 HV2, J2.3 HV (power), J2.4 GND.2 (power), J2.5 HV3, J2.6 HV4

## LEVEL-SHIFTER-8CH
designator ?, comment 8-Channel Bi-Directional  Logic Level Converter based on BSS128 transistors Click here to find device on ebay.comNote: There are many variants. Search for the proper version.
GateName_1: G$1; SymbolName_1: LEVEL-SHIFTER-8CH; LibraryName: diy-modules; DeviceSetName: LEVEL-SHIFTER-8CH; Package: LEVEL-SHIFTER-8CH
footprint LEVEL-SHIFTER-8CH
pins: J1.1 LV1, J1.2 LV2, J1.3 LV3, J1.4 LV4, J1.5 LV (power), J1.6 GND.1 (power), J1.7 LV5, J1.8 LV6, J1.9 LV7, J1.10 LV8, J2.1 HV1, J2.2 HV2, J2.3 HV3, J2.4 HV4, J2.5 HV (power), J2.6 GND.2 (power), J2.7 HV5, J2.8 HV6, J2.9 HV7, J2.10 HV8

## LIGHT-DETECTOR
designator ?, comment Light Detection Module
GateName_1: G$1; SymbolName_1: LIGHT-DETECTOR; LibraryName: diy-modules; DeviceSetName: LIGHT-DETECTOR; Package: LIGHT-DETECTOR
footprint LIGHT-DETECTOR
pins: 1 5V (power), 2 OUT, 3 GND (power)

## LIGHT-SENSOR-BH1750
designator ?, comment Digital Light Sensor based on BH1750BH1750 datasheet is available here:http://www.mouser.com/ds/2/348/bh1750fvi-e-186247.pdfArduino Library for BH1750 is available here:https://github.com/claws/BH1750Video Tutorial is available here:https://www.youtube.com/watch?v=UsLcHSbxf_8Click here to find device on ebay.comNote: There are many variants. Search for the proper version.
GateName_1: G$1; SymbolName_1: LIGHT-SENSOR-BH1750; LibraryName: diy-modules; DeviceSetName: LIGHT-SENSOR-BH1750; Package: LIGHT-SENSOR-BH1750
footprint LIGHT-SENSOR-BH1750
pins: 1 VCC (power), 2 GND (power), 3 SCL, 4 SDA, 5 ADDR

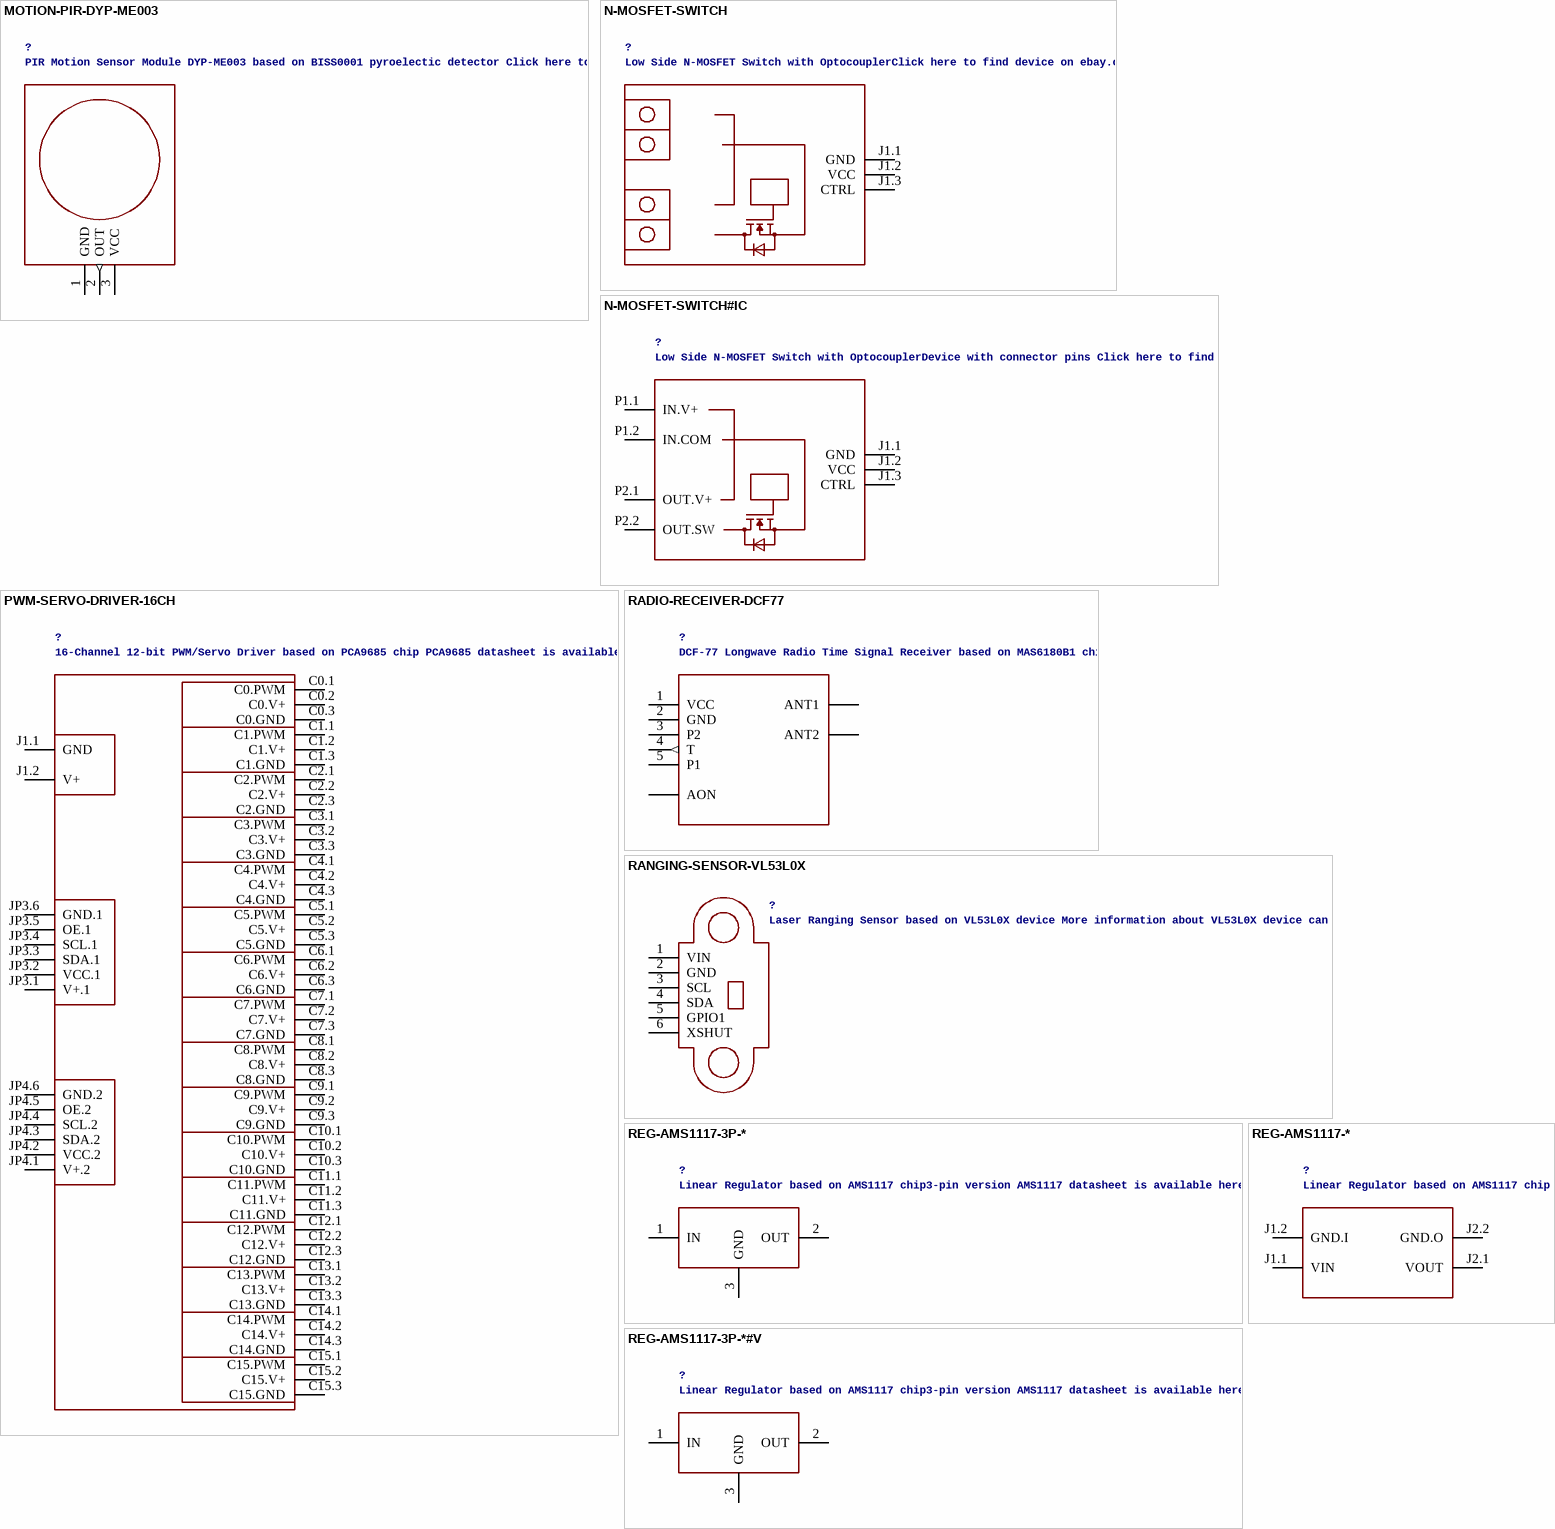
[diagram p6: symbols MOTION-PIR-DYP-ME003 to REG-AMS1117-*]

## MOTION-PIR-DYP-ME003
designator ?, comment PIR Motion Sensor Module DYP-ME003 based on BISS0001 pyroelectic detector Click here to find device on ebay.com
GateName_1: G$1; SymbolName_1: MOTION-PIR-DYP-ME003; LibraryName: diy-modules; DeviceSetName: MOTION-PIR-DYP-ME003; Package: MOTION-PIR-DYP-ME003
footprint MOTION-PIR-DYP-ME003
pins: 1 GND (power), 2 OUT (out), 3 VCC (power)

## N-MOSFET-SWITCH
designator ?, comment Low Side N-MOSFET Switch with OptocouplerClick here to find device on ebay.com
GateName_1: G$1; SymbolName_1: N-MOSFET-SWITCH; LibraryName: diy-modules; DeviceSetName: N-MOSFET-SWITCH; Package: N-MOSFET-SWITCH
footprint N-MOSFET-SWITCH
pins: J1.1 GND (power), J1.2 VCC (power), J1.3 CTRL

## N-MOSFET-SWITCH#IC
designator ?, comment Low Side N-MOSFET Switch with OptocouplerDevice with connector pins Click here to find device on ebay.com
GateName_1: G$1; SymbolName_1: N-MOSFET-SWITCH#IC; LibraryName: diy-modules; DeviceSetName: N-MOSFET-SWITCH#IC; Package: N-MOSFET-SWITCH#IC
footprint N-MOSFET-SWITCH#IC
pins: J1.1 GND (power), J1.2 VCC (power), J1.3 CTRL, P1.1 IN.V+ (power), P1.2 IN.COM (power), P2.1 OUT.V+ (power), P2.2 OUT.SW (power)

## PWM-SERVO-DRIVER-16CH
designator ?, comment 16-Channel 12-bit PWM/Servo Driver based on PCA9685 chip PCA9685 datasheet is available here:http://www.nxp.com/documents/data_sheet/PCA9685.pdfArduino Library for PCA9685 is available here:https://github.com/kasperskaarhoj/PCA9685-Arduino-LibraryClick here to find device on ebay.com
GateName_1: G$1; SymbolName_1: PWM-SERVO-DRIVER-16CH; LibraryName: diy-modules; DeviceSetName: PWM-SERVO-DRIVER-16CH; Package: PWM-SERVO-DRIVER-16CH
footprint PWM-SERVO-DRIVER-16CH
pins: C0.1 C0.PWM, C0.2 C0.V+, C0.3 C0.GND, C1.1 C1.PWM, C1.2 C1.V+, C1.3 C1.GND, C2.1 C2.PWM, C2.2 C2.V+, C2.3 C2.GND, C3.1 C3.PWM, C3.2 C3.V+, C3.3 C3.GND, C4.1 C4.PWM, C4.2 C4.V+, C4.3 C4.GND, C5.1 C5.PWM, C5.2 C5.V+, C5.3 C5.GND, C6.1 C6.PWM, C6.2 C6.V+, C6.3 C6.GND, C7.1 C7.PWM, C7.2 C7.V+, C7.3 C7.GND, C8.1 C8.PWM, C8.2 C8.V+, C8.3 C8.GND, C9.1 C9.PWM, C9.2 C9.V+, C9.3 C9.GND, C10.1 C10.PWM, C10.2 C10.V+, C10.3 C10.GND, C11.1 C11.PWM, C11.2 C11.V+, C11.3 C11.GND, C12.1 C12.PWM, C12.2 C12.V+, C12.3 C12.GND, C13.1 C13.PWM, C13.2 C13.V+, C13.3 C13.GND, C14.1 C14.PWM, C14.2 C14.V+, C14.3 C14.GND, C15.1 C15.PWM, C15.2 C15.V+, C15.3 C15.GND, J1.1 GND (power), J1.2 V+ (power), JP3.1 V+.1 (power), JP3.2 VCC.1 (power), JP3.3 SDA.1, JP3.4 SCL.1, JP3.5 OE.1, JP3.6 GND.1 (power), JP4.1 V+.2 (power), JP4.2 VCC.2 (power), JP4.3 SDA.2, JP4.4 SCL.2, JP4.5 OE.2, JP4.6 GND.2 (power)

## RADIO-RECEIVER-DCF77
designator ?, comment DCF-77 Longwave Radio Time Signal Receiver based on MAS6180B1 chip
GateName_1: G$1; SymbolName_1: RADIO-RECEIVER-DCF77; LibraryName: diy-modules; DeviceSetName: RADIO-RECEIVER-DCF77; Package: RADIO-RECEIVER-DCF77
footprint RADIO-RECEIVER-DCF77
pins: 1 VCC (power), 2 GND (power), 3 P2, 4 T (out), 5 P1, A1 ANT1, A2 ANT2, AON

## RANGING-SENSOR-VL53L0X
designator ?, comment Laser Ranging Sensor based on VL53L0X device More information about VL53L0X device can be found here:http://www.st.com/en/imaging-and-photonics-solutions/vl53l0x.htmlArduino Library for VL53L0X is available here:https://github.com/pololu/vl53l0x-arduinoClick here to find device on ebay.comNote: There are many variants. Search for the proper version.
GateName_1: G$1; SymbolName_1: RANGING-SENSOR-VL53L0X; LibraryName: diy-modules; DeviceSetName: RANGING-SENSOR-VL53L0X; Package: RANGING-SENSOR-VL53L0X
footprint RANGING-SENSOR-VL53L0X
pins: 1 VIN (power), 2 GND (power), 3 SCL, 4 SDA, 5 GPIO1, 6 XSHUT

## REG-AMS1117-3P-*
designator ?, comment Linear Regulator based on AMS1117 chip3-pin version AMS1117 datasheet is available here:http://www.advanced-monolithic.com/pdf/ds1117.pdfClick here to find device on ebay.comNote: There are many variants. Search for the proper version.
GateName_1: G$1; SymbolName_1: REG-AMS1117-3P; DeviceSetName: REG-AMS1117-3P-*; LibraryName: diy-modules; Package: REG-AMS1117-3P
footprint REG-AMS1117-3P
pins: 1 IN, 2 OUT, 3 GND

## REG-AMS1117-3P-*#V
designator ?, comment Linear Regulator based on AMS1117 chip3-pin version AMS1117 datasheet is available here:http://www.advanced-monolithic.com/pdf/ds1117.pdfClick here to find device on ebay.comNote: There are many variants. Search for the proper version.
GateName_1: G$1; SymbolName_1: REG-AMS1117-3P; DeviceName: #V; DeviceSetName: REG-AMS1117-3P-*; LibraryName: diy-modules; Package: REG-AMS1117-3P#V
footprint REG-AMS1117-3P#V
pins: 1 IN, 2 OUT, 3 GND

## REG-AMS1117-*
designator ?, comment Linear Regulator based on AMS1117 chip
GateName_1: G$1; SymbolName_1: REG-AMS1117; DeviceSetName: REG-AMS1117-*; LibraryName: diy-modules; Package: REG-AMS1117
footprint REG-AMS1117
pins: J1.1 VIN, J1.2 GND.I, J2.1 VOUT, J2.2 GND.O

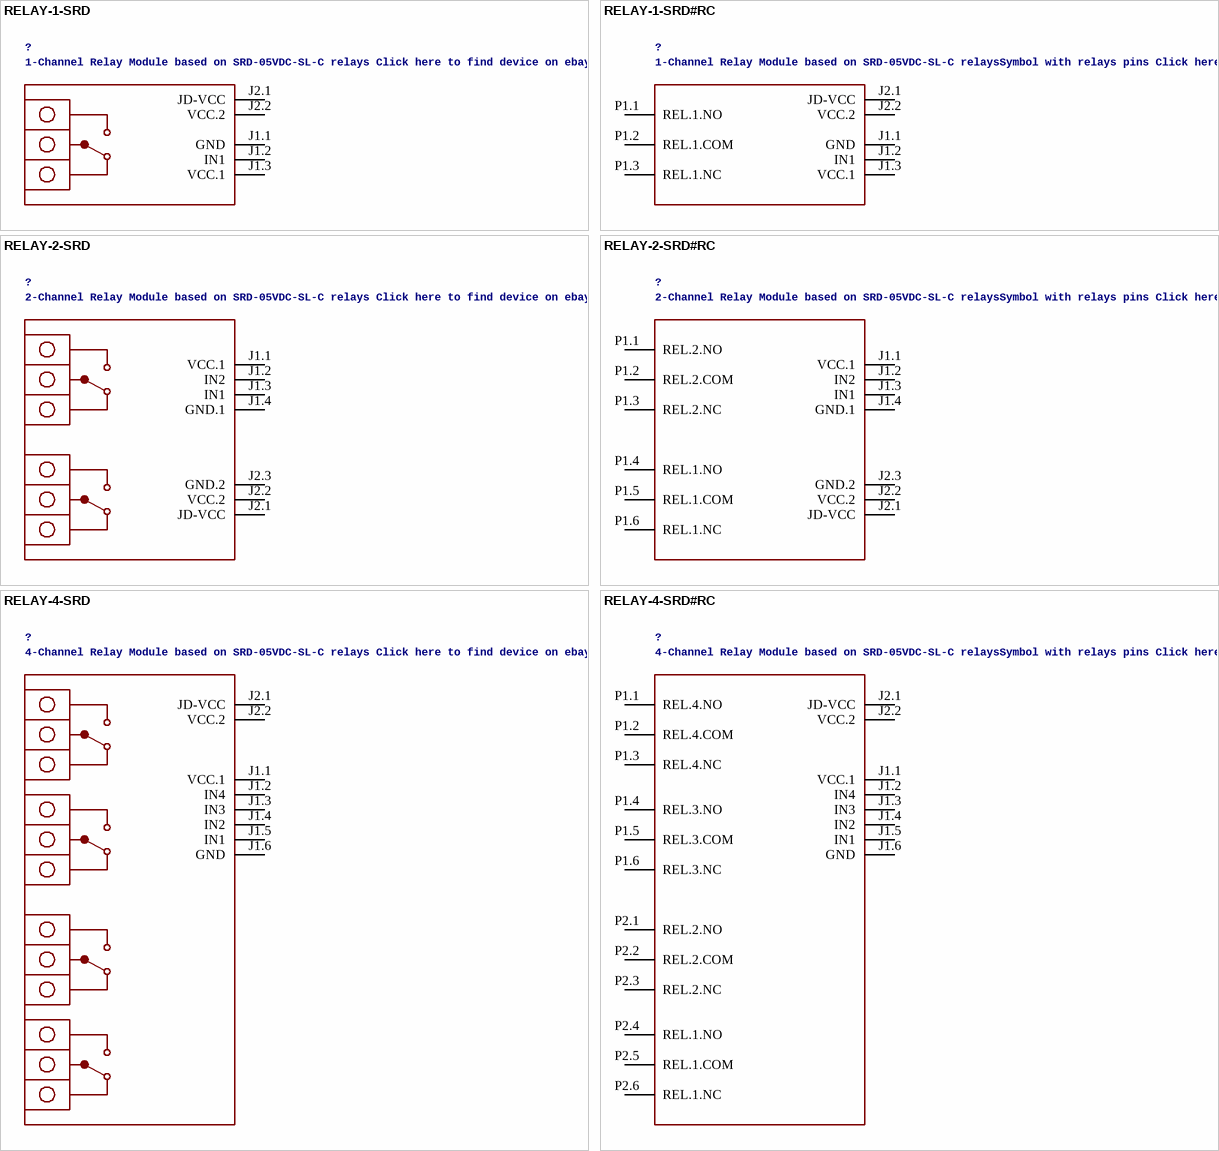
[diagram p7: symbols RELAY-1-SRD to RELAY-4-SRD#RC]

## RELAY-1-SRD
designator ?, comment 1-Channel Relay Module based on SRD-05VDC-SL-C relays Click here to find device on ebay.com
GateName_1: G$1; SymbolName_1: RELAY-1-SRD; LibraryName: diy-modules; DeviceSetName: RELAY-1-SRD; Package: RELAY-1-SRD
footprint RELAY-1-SRD
pins: J1.1 GND (power), J1.2 IN1, J1.3 VCC.1 (power), J2.1 JD-VCC, J2.2 VCC.2 (power)

## RELAY-1-SRD#RC
designator ?, comment 1-Channel Relay Module based on SRD-05VDC-SL-C relaysSymbol with relays pins Click here to find device on ebay.com
GateName_1: G$1; SymbolName_1: RELAY-1-SRD#RC; LibraryName: diy-modules; DeviceSetName: RELAY-1-SRD#RC; Package: RELAY-1-SRD#RC
footprint RELAY-1-SRD#RC
pins: J1.1 GND (power), J1.2 IN1, J1.3 VCC.1 (power), J2.1 JD-VCC, J2.2 VCC.2 (power), P1.1 REL.1.NO, P1.2 REL.1.COM, P1.3 REL.1.NC

## RELAY-2-SRD
designator ?, comment 2-Channel Relay Module based on SRD-05VDC-SL-C relays Click here to find device on ebay.com
GateName_1: G$1; SymbolName_1: RELAY-2-SRD; LibraryName: diy-modules; DeviceSetName: RELAY-2-SRD; Package: RELAY-2-SRD
footprint RELAY-2-SRD
pins: J1.1 VCC.1 (power), J1.2 IN2, J1.3 IN1, J1.4 GND.1 (power), J2.1 JD-VCC, J2.2 VCC.2 (power), J2.3 GND.2 (power)

## RELAY-2-SRD#RC
designator ?, comment 2-Channel Relay Module based on SRD-05VDC-SL-C relaysSymbol with relays pins Click here to find device on ebay.com
GateName_1: G$1; SymbolName_1: RELAY-2-SRD#RC; LibraryName: diy-modules; DeviceSetName: RELAY-2-SRD#RC; Package: RELAY-2-SRD#RC
footprint RELAY-2-SRD#RC
pins: J1.1 VCC.1 (power), J1.2 IN2, J1.3 IN1, J1.4 GND.1 (power), J2.1 JD-VCC, J2.2 VCC.2 (power), J2.3 GND.2 (power), P1.1 REL.2.NO, P1.2 REL.2.COM, P1.3 REL.2.NC, P1.4 REL.1.NO, P1.5 REL.1.COM, P1.6 REL.1.NC

## RELAY-4-SRD
designator ?, comment 4-Channel Relay Module based on SRD-05VDC-SL-C relays Click here to find device on ebay.com
GateName_1: G$1; SymbolName_1: RELAY-4-SRD; LibraryName: diy-modules; DeviceSetName: RELAY-4-SRD; Package: RELAY-4-SRD
footprint RELAY-4-SRD
pins: J1.1 VCC.1 (power), J1.2 IN4, J1.3 IN3, J1.4 IN2, J1.5 IN1, J1.6 GND (power), J2.1 JD-VCC, J2.2 VCC.2 (power)

## RELAY-4-SRD#RC
designator ?, comment 4-Channel Relay Module based on SRD-05VDC-SL-C relaysSymbol with relays pins Click here to find device on ebay.com
GateName_1: G$1; SymbolName_1: RELAY-4-SRD#RC; LibraryName: diy-modules; DeviceSetName: RELAY-4-SRD#RC; Package: RELAY-4-SRD#RC
footprint RELAY-4-SRD#RC
pins: J1.1 VCC.1 (power), J1.2 IN4, J1.3 IN3, J1.4 IN2, J1.5 IN1, J1.6 GND (power), J2.1 JD-VCC, J2.2 VCC.2 (power), P1.1 REL.4.NO, P1.2 REL.4.COM, P1.3 REL.4.NC, P1.4 REL.3.NO, P1.5 REL.3.COM, P1.6 REL.3.NC, P2.1 REL.2.NO, P2.2 REL.2.COM, P2.3 REL.2.NC, P2.4 REL.1.NO, P2.5 REL.1.COM, P2.6 REL.1.NC

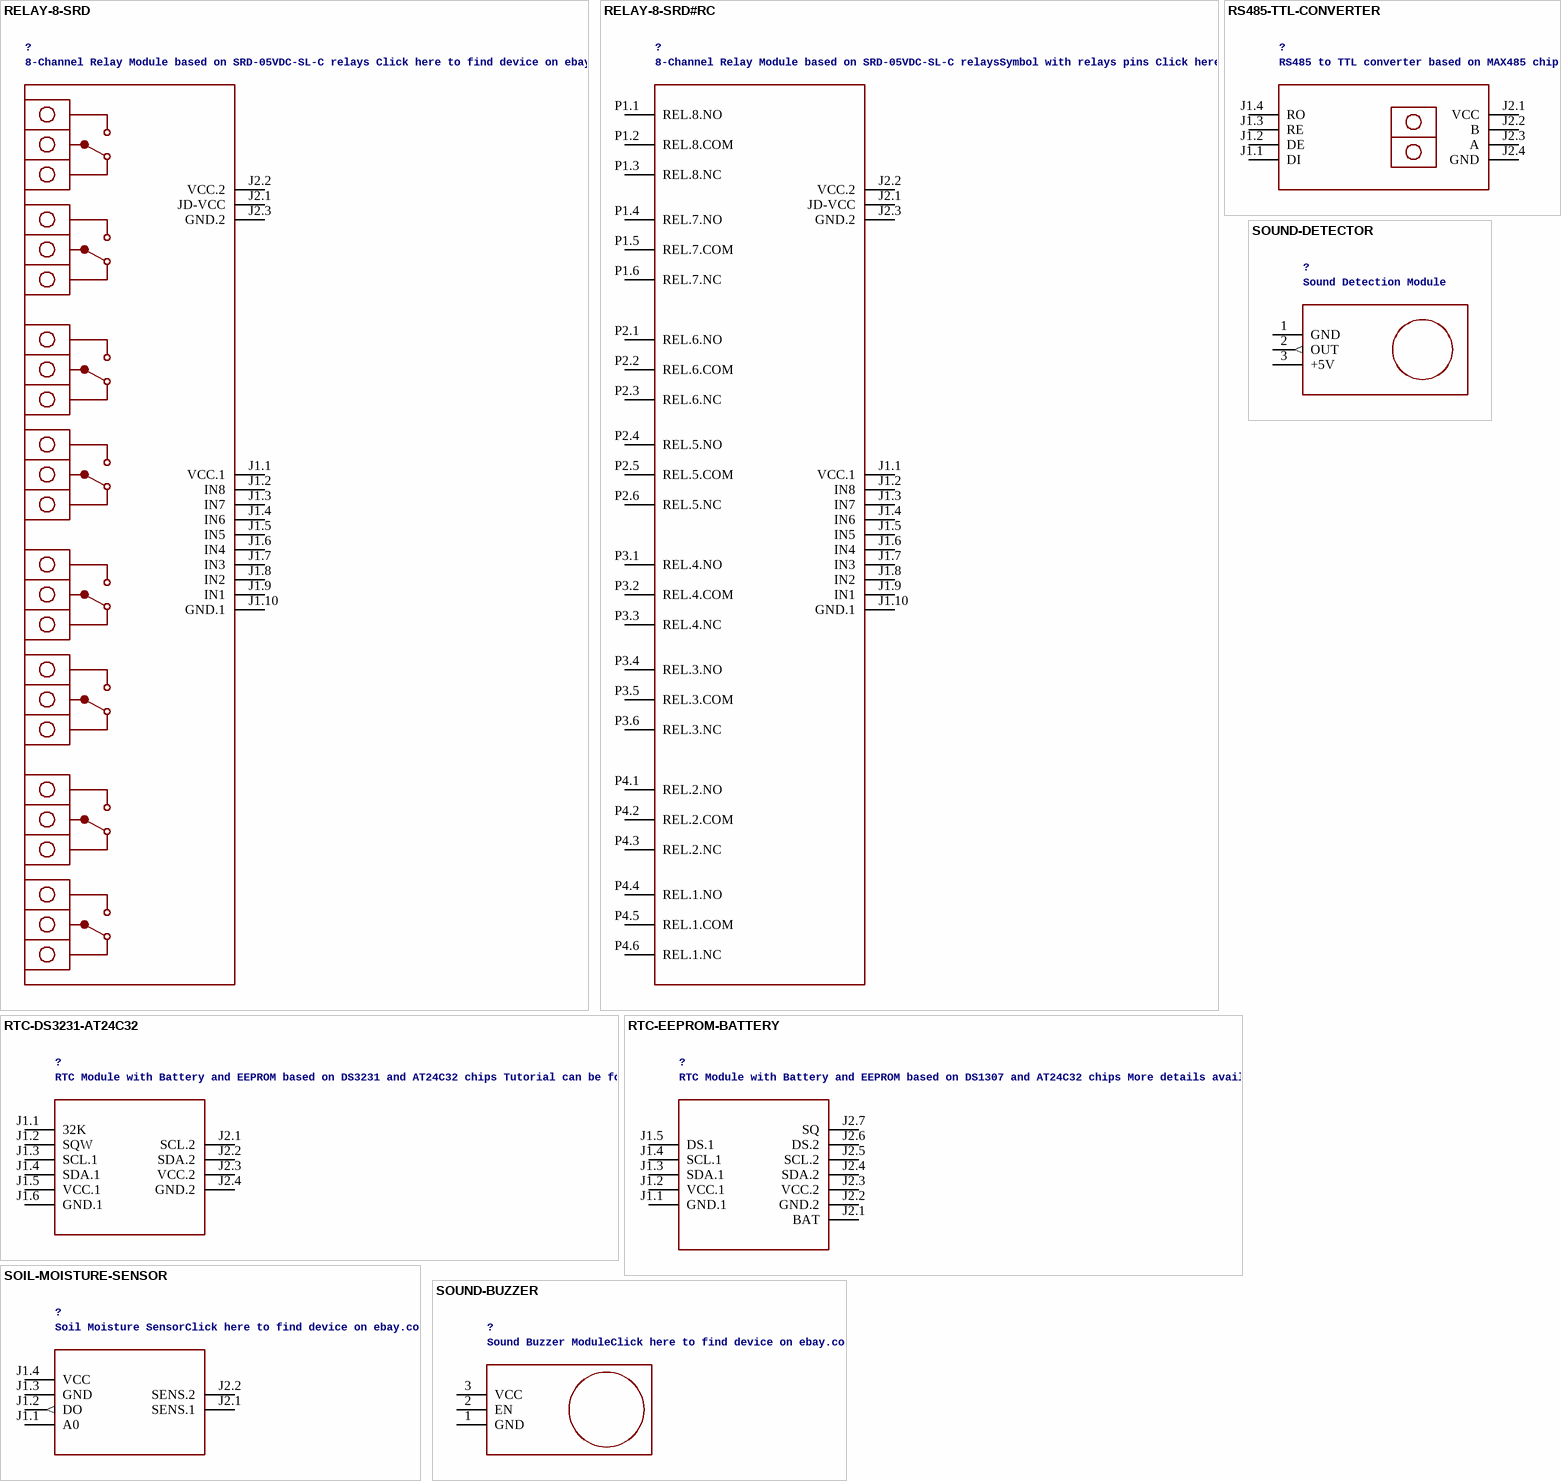
[diagram p8: symbols RELAY-8-SRD to SOUND-DETECTOR]

## RELAY-8-SRD
designator ?, comment 8-Channel Relay Module based on SRD-05VDC-SL-C relays Click here to find device on ebay.com
GateName_1: G$1; SymbolName_1: RELAY-8-SRD; LibraryName: diy-modules; DeviceSetName: RELAY-8-SRD; Package: RELAY-8-SRD
footprint RELAY-8-SRD
pins: J1.1 VCC.1 (power), J1.2 IN8, J1.3 IN7, J1.4 IN6, J1.5 IN5, J1.6 IN4, J1.7 IN3, J1.8 IN2, J1.9 IN1, J1.10 GND.1 (power), J2.1 JD-VCC, J2.2 VCC.2 (power), J2.3 GND.2 (power)

## RELAY-8-SRD#RC
designator ?, comment 8-Channel Relay Module based on SRD-05VDC-SL-C relaysSymbol with relays pins Click here to find device on ebay.com
GateName_1: G$1; SymbolName_1: RELAY-8-SRD#RC; LibraryName: diy-modules; DeviceSetName: RELAY-8-SRD#RC; Package: RELAY-8-SRD#RC
footprint RELAY-8-SRD#RC
pins: J1.1 VCC.1 (power), J1.2 IN8, J1.3 IN7, J1.4 IN6, J1.5 IN5, J1.6 IN4, J1.7 IN3, J1.8 IN2, J1.9 IN1, J1.10 GND.1 (power), J2.1 JD-VCC, J2.2 VCC.2 (power), J2.3 GND.2 (power), P1.1 REL.8.NO, P1.2 REL.8.COM, P1.3 REL.8.NC, P1.4 REL.7.NO, P1.5 REL.7.COM, P1.6 REL.7.NC, P2.1 REL.6.NO, P2.2 REL.6.COM, P2.3 REL.6.NC, P2.4 REL.5.NO, P2.5 REL.5.COM, P2.6 REL.5.NC, P3.1 REL.4.NO, P3.2 REL.4.COM, P3.3 REL.4.NC, P3.4 REL.3.NO, P3.5 REL.3.COM, P3.6 REL.3.NC, P4.1 REL.2.NO, P4.2 REL.2.COM, P4.3 REL.2.NC, P4.4 REL.1.NO, P4.5 REL.1.COM, P4.6 REL.1.NC

## RS485-TTL-CONVERTER
designator ?, comment RS485 to TTL converter based on MAX485 chip
GateName_1: G$1; SymbolName_1: RS485-TTL-CONVERTER; LibraryName: diy-modules; DeviceSetName: RS485-TTL-CONVERTER; Package: RS485-TTL-CONVERTER
footprint RS485-TTL-CONVERTER
pins: J1.1 DI, J1.2 DE, J1.3 RE, J1.4 RO, J2.1 VCC (power), J2.2 B, J2.3 A, J2.4 GND (power)

## RTC-DS3231-AT24C32
designator ?, comment RTC Module with Battery and EEPROM based on DS3231 and AT24C32 chips Tutorial can be found here:https://edwardmallon.wordpress.com/2014/05/21/using-a-cheap-3-ds3231-rtc-at24c32-eeprom-from-ebay/Click here to find device on ebay.com
GateName_1: G$1; SymbolName_1: RTC-DS3231-AT24C32; LibraryName: diy-modules; DeviceSetName: RTC-DS3231-AT24C32; Package: RTC-DS3231-AT24C32
footprint RTC-DS3231-AT24C32
pins: J1.1 32K, J1.2 SQW, J1.3 SCL.1, J1.4 SDA.1, J1.5 VCC.1 (power), J1.6 GND.1 (power), J2.1 SCL.2, J2.2 SDA.2, J2.3 VCC.2 (power), J2.4 GND.2 (power)

## RTC-EEPROM-BATTERY
designator ?, comment RTC Module with Battery and EEPROM based on DS1307 and AT24C32 chips More details available here:http://henrysbench.capnfatz.com/henrys-bench/arduino-sensors-and-input/arduino-tiny-rtc-d1307-tutorial/Click here to find device on ebay.com
GateName_1: G$1; SymbolName_1: RTC-EEPROM-BATTERY; LibraryName: diy-modules; DeviceSetName: RTC-EEPROM-BATTERY; Package: RTC-EEPROM-BATTERY
footprint RTC-EEPROM-BATTERY
pins: J1.1 GND.1 (power), J1.2 VCC.1 (power), J1.3 SDA.1, J1.4 SCL.1, J1.5 DS.1, J2.1 BAT, J2.2 GND.2 (power), J2.3 VCC.2 (power), J2.4 SDA.2, J2.5 SCL.2, J2.6 DS.2, J2.7 SQ

## SOIL-MOISTURE-SENSOR
designator ?, comment Soil Moisture SensorClick here to find device on ebay.com
GateName_1: G$1; SymbolName_1: SOIL-MOISTURE-SENSOR; LibraryName: diy-modules; DeviceSetName: SOIL-MOISTURE-SENSOR; Package: SOIL-MOISTURE-SENSOR
footprint SOIL-MOISTURE-SENSOR
pins: J1.1 A0, J1.2 DO (out), J1.3 GND (power), J1.4 VCC (power), J2.1 SENS.1, J2.2 SENS.2

## SOUND-BUZZER
designator ?, comment Sound Buzzer ModuleClick here to find device on ebay.com
GateName_1: G$1; SymbolName_1: SOUND-BUZZER; LibraryName: diy-modules; DeviceSetName: SOUND-BUZZER; Package: SOUND-BUZZER
footprint SOUND-BUZZER
pins: 1 GND (power), 2 EN, 3 VCC (power)

## SOUND-DETECTOR
designator ?, comment Sound Detection Module
GateName_1: G$1; SymbolName_1: SOUND-DETECTOR; LibraryName: diy-modules; DeviceSetName: SOUND-DETECTOR; Package: SOUND-DETECTOR
footprint SOUND-DETECTOR
pins: 1 GND (power), 2 OUT (out), 3 +5V (power)

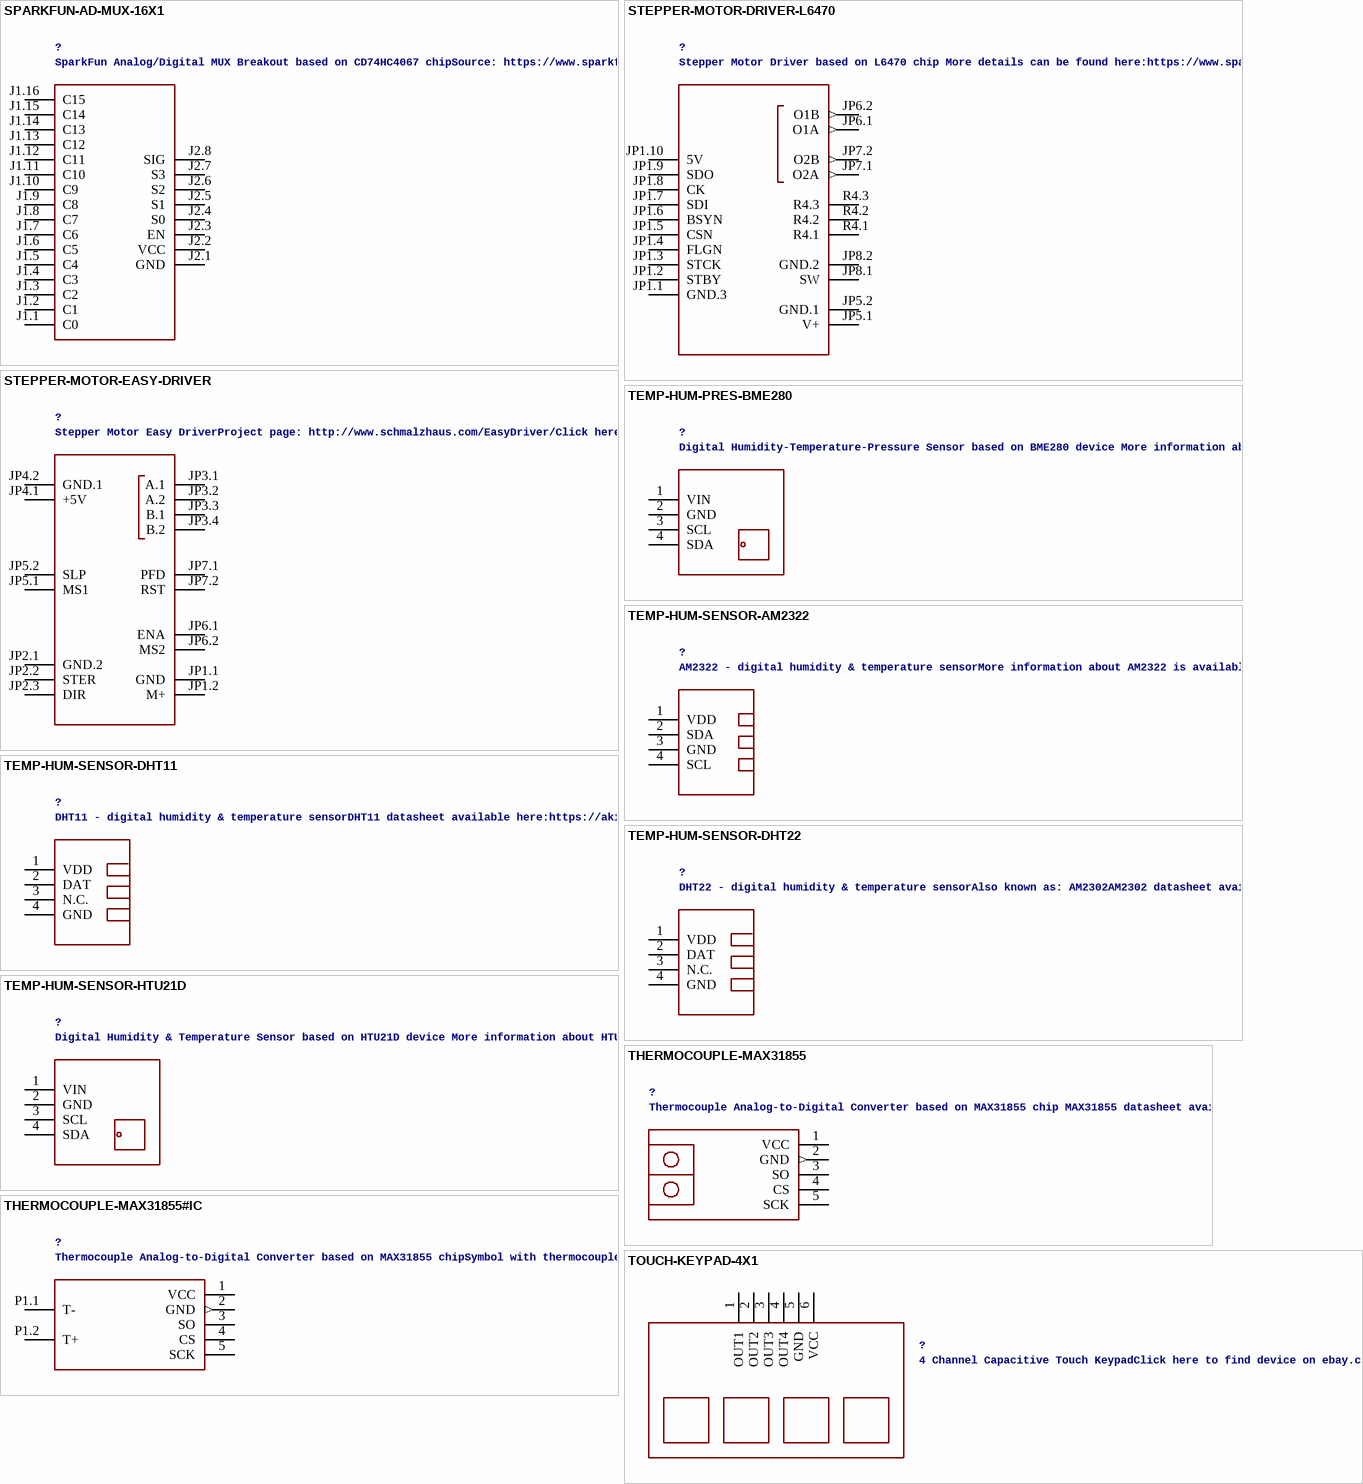
[diagram p9: symbols SPARKFUN-AD-MUX-16X1 to TOUCH-KEYPAD-4X1]

## SPARKFUN-AD-MUX-16X1
designator ?, comment SparkFun Analog/Digital MUX Breakout based on CD74HC4067 chipSource: https://www.sparkfun.com/products/9056
GateName_1: G$1; SymbolName_1: SPARKFUN-AD-MUX-16X1; LibraryName: diy-modules; DeviceSetName: SPARKFUN-AD-MUX-16X1; Package: SPARKFUN-AD-MUX-16X1
footprint SPARKFUN-AD-MUX-16X1
pins: J1.1 C0, J1.2 C1, J1.3 C2, J1.4 C3, J1.5 C4, J1.6 C5, J1.7 C6, J1.8 C7, J1.9 C8, J1.10 C9, J1.11 C10, J1.12 C11, J1.13 C12, J1.14 C13, J1.15 C14, J1.16 C15, J2.1 GND (power), J2.2 VCC (power), J2.3 EN, J2.4 S0, J2.5 S1, J2.6 S2, J2.7 S3, J2.8 SIG

## STEPPER-MOTOR-DRIVER-L6470
designator ?, comment Stepper Motor Driver based on L6470 chip More details can be found here:https://www.sparkfun.com/products/retired/10859L6470 datasheet is available here:www.st.com/resource/en/datasheet/CD00255075.pdfClick here to find device on ebay.com
GateName_1: G$1; SymbolName_1: STEPPER-MOTOR-DRIVER-L6470; LibraryName: diy-modules; DeviceSetName: STEPPER-MOTOR-DRIVER-L6470; Package: STEPPER-MOTOR-DRIVER-L6470
footprint STEPPER-MOTOR-DRIVER-L6470
pins: JP1.1 GND.3 (power), JP1.2 STBY, JP1.3 STCK, JP1.4 FLGN, JP1.5 CSN, JP1.6 BSYN, JP1.7 SDI, JP1.8 CK, JP1.9 SDO, JP1.10 5V (power), JP5.1 V+ (power), JP5.2 GND.1 (power), JP6.1 O1A (out), JP6.2 O1B (out), JP7.1 O2A (out), JP7.2 O2B (out), JP8.1 SW, JP8.2 GND.2, R4.1, R4.2, R4.3

## STEPPER-MOTOR-EASY-DRIVER
designator ?, comment Stepper Motor Easy DriverProject page: http://www.schmalzhaus.com/EasyDriver/Click here to find device on ebay.com
GateName_1: G$1; SymbolName_1: STEPPER-MOTOR-EASY-DRIVER; LibraryName: diy-modules; DeviceSetName: STEPPER-MOTOR-EASY-DRIVER; Package: STEPPER-MOTOR-EASY-DRIVER
footprint STEPPER-MOTOR-EASY-DRIVER
pins: JP1.1 GND, JP1.2 M+, JP2.1 GND.2, JP2.2 STER, JP2.3 DIR, JP3.1 A.1, JP3.2 A.2, JP3.3 B.1, JP3.4 B.2, JP4.1 +5V, JP4.2 GND.1, JP5.1 MS1, JP5.2 SLP, JP6.1 ENA, JP6.2 MS2, JP7.1 PFD, JP7.2 RST

## TEMP-HUM-PRES-BME280
designator ?, comment Digital Humidity-Temperature-Pressure Sensor based on BME280 device More information about BME280 device is available here:https://www.bosch-sensortec.com/bst/products/all_products/bme280Click here to find device on ebay.com
GateName_1: G$1; SymbolName_1: TEMP-HUM-PRES-BME280; LibraryName: diy-modules; DeviceSetName: TEMP-HUM-PRES-BME280; Package: TEMP-HUM-PRES-BME280
footprint TEMP-HUM-PRES-BME280
pins: 1 VIN (power), 2 GND (power), 3 SCL, 4 SDA

## TEMP-HUM-SENSOR-AM2322
designator ?, comment AM2322 - digital humidity & temperature sensorMore information about AM2322 is available here:http://www.electrodragon.com/w/AM2322Click here to find device on ebay.com
GateName_1: G$1; SymbolName_1: TEMP-HUM-SENSOR-AM2322; LibraryName: diy-modules; DeviceSetName: TEMP-HUM-SENSOR-AM2322; Package: TEMP-HUM-SENSOR-AM2322
footprint TEMP-HUM-SENSOR-AM2322
pins: 1 VDD (power), 2 SDA, 3 GND (power), 4 SCL

## TEMP-HUM-SENSOR-DHT11
designator ?, comment DHT11 - digital humidity & temperature sensorDHT11 datasheet available here:https://akizukidenshi.com/download/ds/aosong/DHT11.pdfClick here to find device on ebay.com
GateName_1: G$1; SymbolName_1: TEMP-HUM-SENSOR-DHT11; LibraryName: diy-modules; DeviceSetName: TEMP-HUM-SENSOR-DHT11; Package: TEMP-HUM-SENSOR-DHT11
footprint TEMP-HUM-SENSOR-DHT11
pins: 1 VDD (power), 2 DAT, 3 N.C., 4 GND (power)

## TEMP-HUM-SENSOR-DHT22
designator ?, comment DHT22 - digital humidity & temperature sensorAlso known as: AM2302AM2302 datasheet available here:http://akizukidenshi.com/download/ds/aosong/AM2302.pdfClick here to find device on ebay.com
GateName_1: G$1; SymbolName_1: TEMP-HUM-SENSOR-DHT22; LibraryName: diy-modules; DeviceSetName: TEMP-HUM-SENSOR-DHT22; Package: TEMP-HUM-SENSOR-DHT22
footprint TEMP-HUM-SENSOR-DHT22
pins: 1 VDD (power), 2 DAT, 3 N.C., 4 GND (power)

## TEMP-HUM-SENSOR-HTU21D
designator ?, comment Digital Humidity & Temperature Sensor based on HTU21D device More information about HTU21D device is available here:http://futureeverything.org/wp-content/uploads/2014/05/Humidity-Datasheet.pdfHTU21D Arudino Library is available here:https://learn.sparkfun.com/tutorials/htu21d-humidity-sensor-hookup-guide/htu21d-library-and-functionsClick here to find device on ebay.com
GateName_1: G$1; SymbolName_1: TEMP-HUM-SENSOR-HTU21D; LibraryName: diy-modules; DeviceSetName: TEMP-HUM-SENSOR-HTU21D; Package: TEMP-HUM-SENSOR-HTU21D
footprint TEMP-HUM-SENSOR-HTU21D
pins: 1 VIN (power), 2 GND (power), 3 SCL, 4 SDA

## THERMOCOUPLE-MAX31855
designator ?, comment Thermocouple Analog-to-Digital Converter based on MAX31855 chip MAX31855 datasheet available here:https://www.maximintegrated.com/en/products/analog/sensors-and-sensor-interface/MAX31855.htmlClick here to find device on ebay.com
GateName_1: G$1; SymbolName_1: THERMOCOUPLE-MAX31855; LibraryName: diy-modules; DeviceSetName: THERMOCOUPLE-MAX31855; Package: THERMOCOUPLE-MAX31855
footprint THERMOCOUPLE-MAX31855
pins: 1 VCC (power), 2 GND (out), 3 SO, 4 CS, 5 SCK

## THERMOCOUPLE-MAX31855#IC
designator ?, comment Thermocouple Analog-to-Digital Converter based on MAX31855 chipSymbol with thermocouple connector pins MAX31855 datasheet available here:https://www.maximintegrated.com/en/products/analog/sensors-and-sensor-interface/MAX31855.htmlClick here to find device on ebay.com
GateName_1: G$1; SymbolName_1: THERMOCOUPLE-MAX31855#IC; LibraryName: diy-modules; DeviceSetName: THERMOCOUPLE-MAX31855#IC; Package: THERMOCOUPLE-MAX31855#IC
footprint THERMOCOUPLE-MAX31855#IC
pins: 1 VCC (power), 2 GND (out), 3 SO, 4 CS, 5 SCK, P1.1 T-, P1.2 T+

## TOUCH-KEYPAD-4X1
designator ?, comment 4 Channel Capacitive Touch KeypadClick here to find device on ebay.com
GateName_1: G$1; SymbolName_1: TOUCH-KEYPAD-4X1; LibraryName: diy-modules; DeviceSetName: TOUCH-KEYPAD-4X1; Package: TOUCH-KEYPAD-4X1
footprint TOUCH-KEYPAD-4X1
pins: 1 OUT1, 2 OUT2, 3 OUT3, 4 OUT4, 5 GND (power), 6 VCC (power)

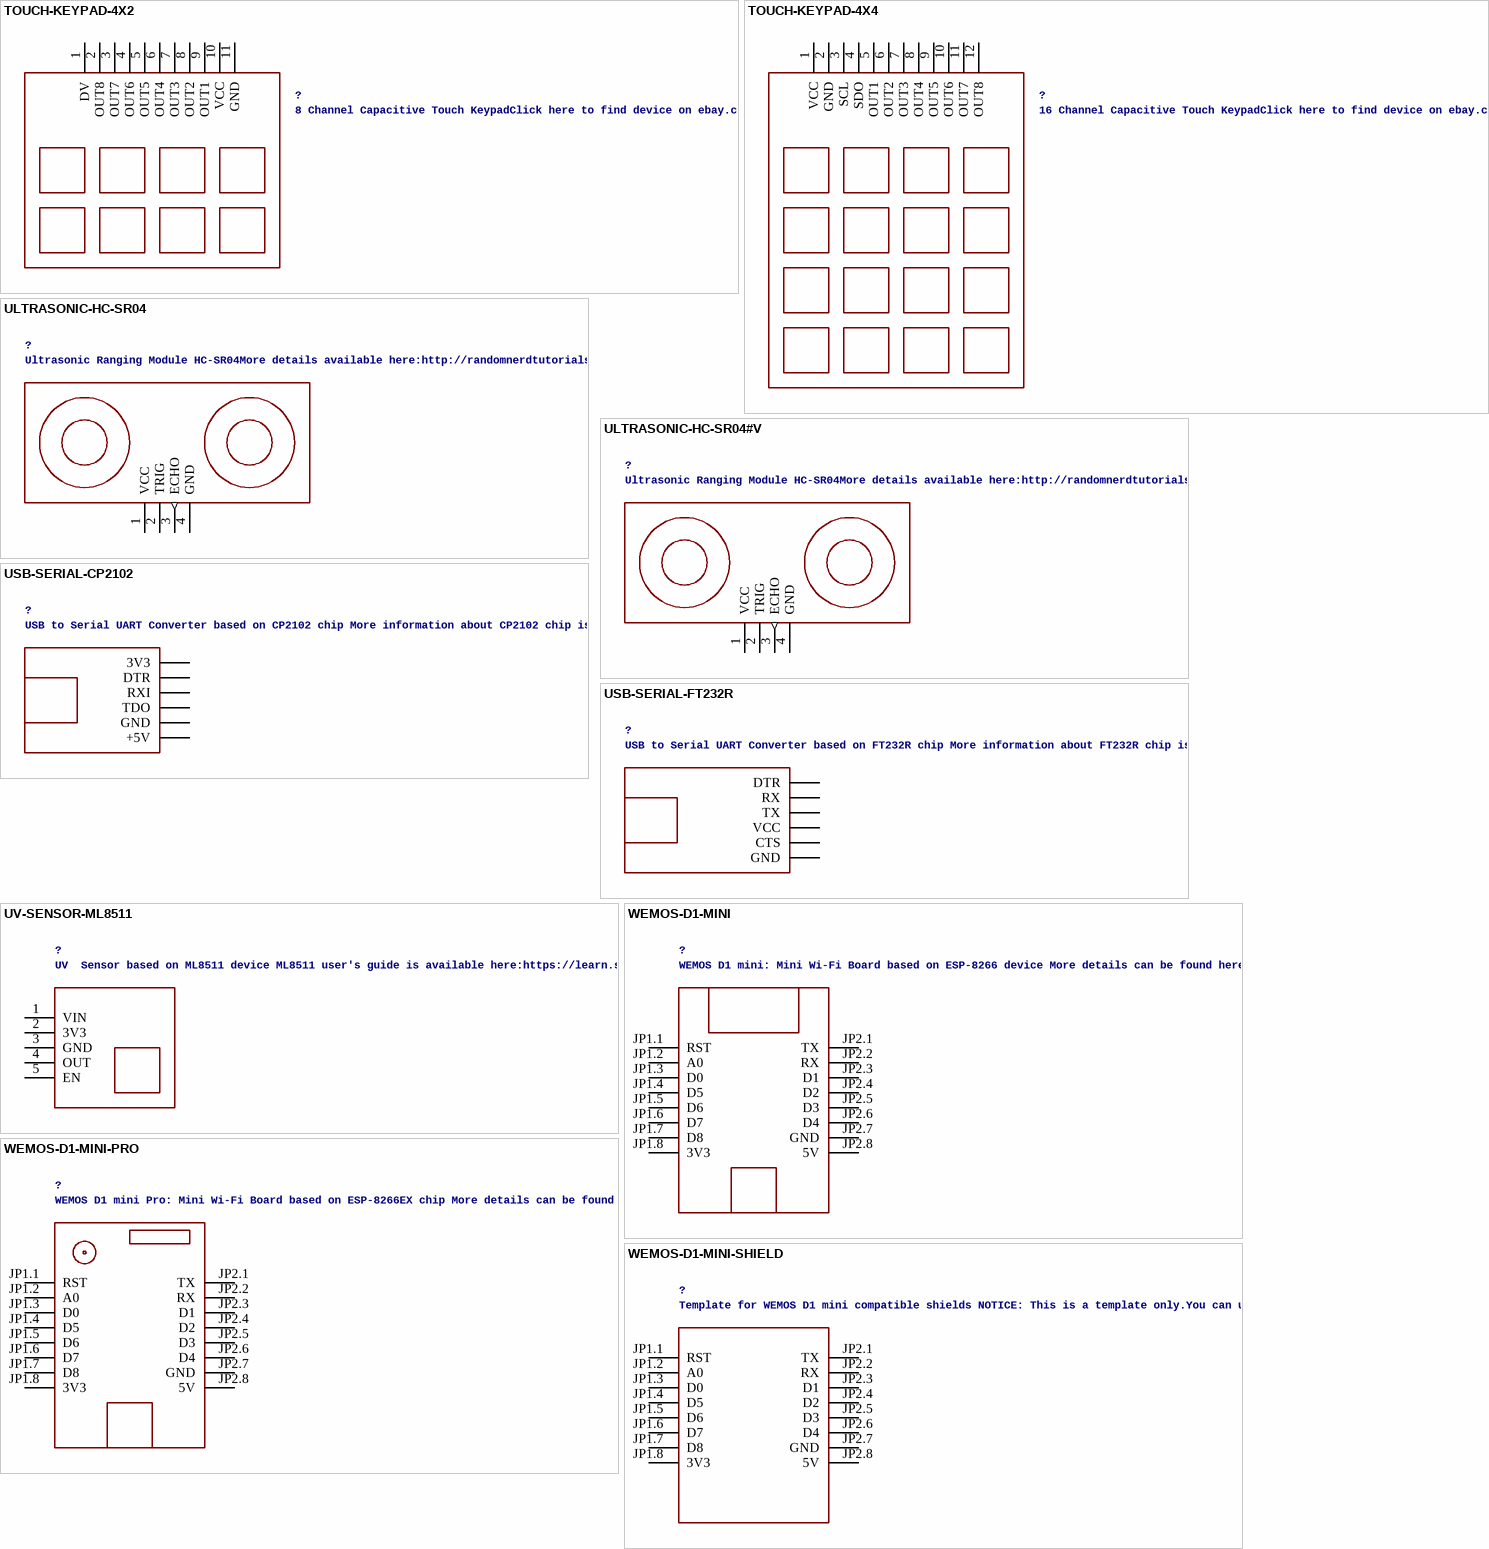
[diagram p10: symbols TOUCH-KEYPAD-4X2 to WEMOS-D1-MINI-SHIELD]

## TOUCH-KEYPAD-4X2
designator ?, comment 8 Channel Capacitive Touch KeypadClick here to find device on ebay.com
GateName_1: G$1; SymbolName_1: TOUCH-KEYPAD-4X2; LibraryName: diy-modules; DeviceSetName: TOUCH-KEYPAD-4X2; Package: TOUCH-KEYPAD-4X2
footprint TOUCH-KEYPAD-4X2
pins: 1 DV, 2 OUT8, 3 OUT7, 4 OUT6, 5 OUT5, 6 OUT4, 7 OUT3, 8 OUT2, 9 OUT1, 10 VCC (power), 11 GND (power)

## TOUCH-KEYPAD-4X4
designator ?, comment 16 Channel Capacitive Touch KeypadClick here to find device on ebay.com
GateName_1: G$1; SymbolName_1: TOUCH-KEYPAD-4X4; LibraryName: diy-modules; DeviceSetName: TOUCH-KEYPAD-4X4; Package: TOUCH-KEYPAD-4X4
footprint TOUCH-KEYPAD-4X4
pins: 1 VCC (power), 2 GND (power), 3 SCL, 4 SDO, 5 OUT1, 6 OUT2, 7 OUT3, 8 OUT4, 9 OUT5, 10 OUT6, 11 OUT7, 12 OUT8

## ULTRASONIC-HC-SR04
designator ?, comment Ultrasonic Ranging Module HC-SR04More details available here:http://randomnerdtutorials.com/complete-guide-for-ultrasonic-sensor-hc-sr04/Click here to find device on ebay.com
GateName_1: G$1; SymbolName_1: ULTRASONIC-HC-SR04; LibraryName: diy-modules; DeviceSetName: ULTRASONIC-HC-SR04; Package: ULTRASONIC-HC-SR04
footprint ULTRASONIC-HC-SR04
pins: 1 VCC (power), 2 TRIG, 3 ECHO (out), 4 GND (power)

## ULTRASONIC-HC-SR04#V
designator ?, comment Ultrasonic Ranging Module HC-SR04More details available here:http://randomnerdtutorials.com/complete-guide-for-ultrasonic-sensor-hc-sr04/Click here to find device on ebay.com
GateName_1: G$1; SymbolName_1: ULTRASONIC-HC-SR04; DeviceName: #V; LibraryName: diy-modules; DeviceSetName: ULTRASONIC-HC-SR04; Package: ULTRASONIC-HC-SR04#V
footprint ULTRASONIC-HC-SR04#V
pins: 1 VCC (power), 2 TRIG, 3 ECHO (out), 4 GND (power)

## USB-SERIAL-CP2102
designator ?, comment USB to Serial UART Converter based on CP2102 chip More information about CP2102 chip is available here:https://www.silabs.com/documents/public/data-sheets/CP2102-9.pdfDrivers for CP210x devices are available here:http://www.silabs.com/products/development-tools/software/usb-to-uart-bridge-vcp-driversClick here to find device on ebay.com
GateName_1: G$1; SymbolName_1: USB-SERIAL-CP2102; LibraryName: diy-modules; DeviceSetName: USB-SERIAL-CP2102; Package: USB-SERIAL-CP2102
footprint USB-SERIAL-CP2102
pins: 1 3V3 (power), 2 DTR, 3 RXI, 4 TDO, 5 GND (power), 6 +5V (power)